# Altium schematic symbol library wr_switch.SCHLIB: 183 symbols (part 2 of 3)
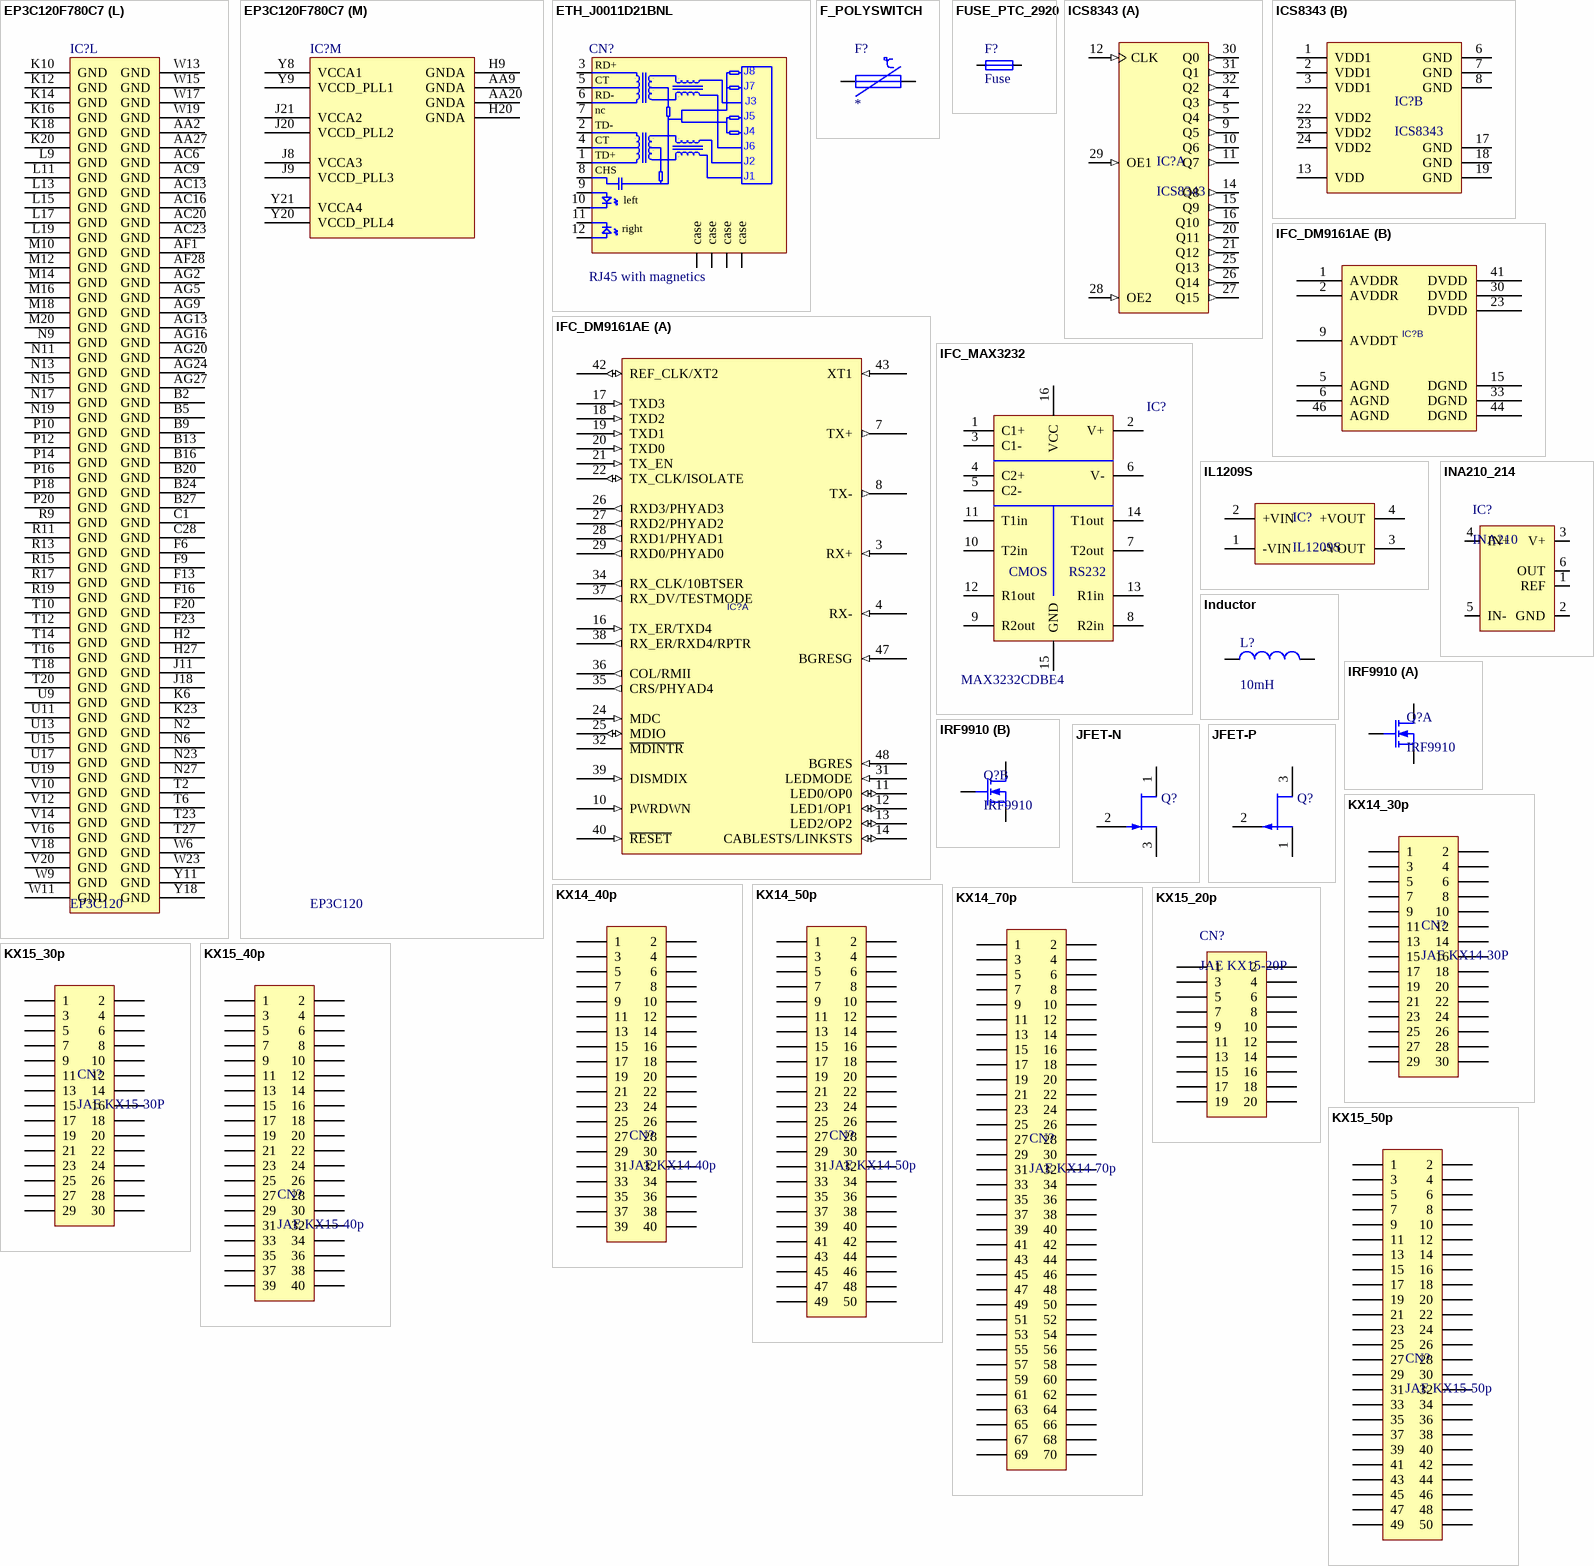
[diagram p24: symbols EP3C120F780C7 to KX15_50p]

## EP3C120F780C7
designator IC?, comment EP3C120
Cyclone III Family FPGA, 531 I/O Pins, 4 PLLs, 780-Pin FBGA, Speed Grade 7, Commercial Grade; Value: EP3C120F780C8N; RefId: 1635080; Published: 26-Feb-2007; DatasheetVersion: ver1.2, Sep-2007; PackageVersion: ver14.8, Oct-2007; PackageReference: FBGA780-2; Publisher: Altium Limited; PackageDescription: 780-Ball FineLine Ball Grid Array (FBGA780) - Option 2 - Wire Bond; Code_JEDEC: MS-034-AAM-1; ComponentLink1Description: Manufacturer Link; ComponentLink1URL: http://www.altera.com/; ComponentLink2Description: Handbook (7.86MB); ComponentLink2URL: http://www.altera.com/literature/hb/cyc3/cyclone3_handbook.pdf; ComponentLink3Description: Packaging Specification; ComponentLink3URL: http://www.altera.com/literature/ds/dspkg.pdf; Supplier: Farnell
footprint FBGA780-2 (BGA, 780-Leads, Body 29x29mm, Pitch 1mm)
3D model EP3C120-FBGA780-2 (780-Ball FineLine Ball Grid Array (FBGA780) - Option 2 - Wire Bond)
signal-integrity model EP3C120_F780 (Cyclone III)
part A pins: C2 IO, DIFFIO_L1n, (DQ2L)/(DQ1L)/(DQ1L) (io), D1 IO, DIFFIO_L2n, (DQ2L)/(DQ1L)/(DQ1L) (io), D2 IO, DIFFIO_L2p, (DQ2L)/(DQ1L)/(DQ1L) (io), D3 IO, DIFFIO_L1p (io), E1 IO, DIFFIO_L8n, _/(DQ1L)/(DQ1L) (io), E2 IO, DIFFIO_L8p, (FLASH_nCE, nCSO) (io), E3 IO, DIFFIO_L4p, (DQS2L/CQ3L,CDPCLK0)/(DQS2L/CQ3L,CDPCLK0)/(DQS2L/CQ3L,CDPCLK0) (io), F1 IO, DIFFIO_L9n, (DQ0L)/(DQ1L)/(DQ1L) (io), F2 IO, DIFFIO_L9p, (DM2L)/(DM1L0/BWS#1L0)/(DM1L0/BWS#1L0) (io), F3 IO, DIFFIO_L4n, (DQ2L)/(DQ1L)/(DQ1L) (io), F4 IO, DIFFIO_L5n, (DATA1, ASDO) (io), F5 IO, DIFFIO_L5p, (DQ2L)/(DQ1L)/(DQ1L) (io), G1 IO, DIFFIO_L11n (io), G2 IO, DIFFIO_L11p, (DQ0L)/(DQ1L)/(DQ1L) (io), G3 IO, DIFFIO_L6n (io), G4 IO, DIFFIO_L6p, (DQ2L)/(DQ1L)/(DQ1L) (io), G5 IO, DIFFIO_L3n, (DQ2L)/(DQ1L)/(DQ1L) (io), G6 IO, DIFFIO_L3p, (nRESET), (DQ2L)/(DQ1L)/(DQ1L) (io), H3 IO, DIFFIO_L7n (io), H4 IO, DIFFIO_L7p (io), H5 IO (io), H6 IO (io), H7 IO, VREFB1N0 (io), J3 IO, DIFFIO_L10n, (DQ0L)/(DQ1L)/(DQ1L) (io), J4 IO, DIFFIO_L10p (io), J5 IO, DIFFIO_L16n (io), J6 IO, DIFFIO_L16p (io), J7 IO, DIFFIO_L17p (io), K1 IO, DIFFIO_L12n, (DQ0L)/(DQ1L)/(DQ1L) (io), K2 IO, DIFFIO_L12p, (DQS0L/CQ1L,DPCLK0)/(DQS0L/CQ1L,DPCLK0)/(DQS0L/CQ1L,DPCLK0) (io), K3 IO, DIFFIO_L13n (io), K4 IO, DIFFIO_L13p (io), K7 IO, DIFFIO_L17n (io), K8 IO, DIFFIO_L18p (io), L1 IO, DIFFIO_L22n, (DQ0L)/(DQ1L)/(DQ1L) (io), L2 IO, DIFFIO_L22p (io), L3 IO, DIFFIO_L14n (io), L4 IO, DIFFIO_L14p (io), L5 IO, VREFB1N1 (io), L6 IO, DIFFIO_L19n (io), L7 IO, DIFFIO_L19p (io), L8 IO, DIFFIO_L18n (io), M1 IO, DIFFIO_L23n, (DQ0L)/(DQ1L)/(DQ1L) (io), M2 IO, DIFFIO_L23p (io), M3 IO, DIFFIO_L15n (io), M4 IO, DIFFIO_L15p (io), M5 IO, VREFB1N2 (io), M7 IO, DIFFIO_L21n (io), M8 IO, DIFFIO_L21p (io), N3 IO, DIFFIO_L20n (io), N4 IO, DIFFIO_L20p (io), N7 IO, (DATA0) (io), N8 IO (io), P1 IO, DIFFIO_L24n, (DQ0L)/(DQ1L)/(DQ1L) (io), P2 IO, DIFFIO_L24p (io)
part B pins: AA3 IO, DIFFIO_L40n (io), AA4 IO, DIFFIO_L40p, (DQ3L)/(DQ3L)/(DQ1L) (io), AA5 IO, DIFFIO_L47n (io), AA6 IO, DIFFIO_L47p (io), AA7 IO (io), AB1 IO, DIFFIO_L33n (io), AB2 IO, DIFFIO_L33p, (DQS1L/CQ1L#,DPCLK1)/(DQS1L/CQ1L#,DPCLK1)/(DQS1L/CQ1L#,DPCLK1) (io), AB3 IO, (DQ3L)/(DQ3L)/(DQ1L) (io), AB4 IO, VREFB2N2 (io), AB5 IO, DIFFIO_L50n (io), AB6 IO, DIFFIO_L50p (io), AC1 IO, DIFFIO_L37n, (DQ3L)/(DQ3L)/(DQ1L) (io), AC2 IO, DIFFIO_L37p, (DQ3L)/(DQ3L)/(DQ1L) (io), AC3 IO, DIFFIO_L38p, (DQ3L)/(DQ3L)/(DQ1L) (io), AC4 IO, DIFFIO_L49n (io), AC5 IO, DIFFIO_L49p (io), AD1 IO, DIFFIO_L39n (io), AD2 IO, DIFFIO_L39p, (DQ3L)/(DQ3L)/(DQ1L) (io), AD3 IO, DIFFIO_L38n (io), AE1 IO, DIFFIO_L41n (io), AE2 IO, DIFFIO_L41p, (DQ3L)/(DQ3L)/(DQ1L) (io), AE3 IO, DIFFIO_L48p, (DQS3L/CQ3L#,CDPCLK1)/(DQS3L/CQ3L#,CDPCLK1)/(DQS3L/CQ3L#,CDPCLK1) (io), AF2 IO, DIFFIO_L48n, (DM3L/BWS#3L)/(DM3L1/BWS#3L1)/(DM1L3/BWS#1L3) (io), R1 IO, DIFFIO_L25n, _/(DQ1L)/(DQ1L) (io), R2 IO, DIFFIO_L25p, (DQ0L)/(DQ1L)/(DQ1L) (io), R3 IO, DIFFIO_L28p, (DQ1L)/(DQ3L)/(DQ1L) (io), R4 IO, DIFFIO_L28n, (DQ1L)/(DQ3L)/(DQ1L) (io), R5 IO, (DQ1L)/(DQ3L)/(DQ1L) (io), R6 IO, DIFFIO_L26n (io), R7 IO, DIFFIO_L26p (io), T3 IO, DIFFIO_L29n (io), T4 IO, DIFFIO_L29p, (DQ1L)/(DQ3L)/(DQ1L) (io), T7 IO, VREFB2N0 (io), T8 IO, VREFB2N1 (io), U1 IO, DIFFIO_L30n, (DQ1L)/(DQ3L)/(DQ1L) (io), U2 IO, DIFFIO_L30p (io), U3 IO, DIFFIO_L27p, (DM0L)/(DM1L1/BWS#1L1)/(DM1L1/BWS#1L1) (io), U4 IO, DIFFIO_L27n (io), U5 IO, DIFFIO_L35n (io), U6 IO, DIFFIO_L35p, (DQ3L)/(DQ3L)/(DQ1L) (io), U7 IO, RUP1 (io), U8 IO, RDN1 (io), V1 IO, DIFFIO_L32n, (DQ1L)/(DQ3L)/(DQ1L) (io), V2 IO, DIFFIO_L32p, (DQ1L)/(DQ3L)/(DQ1L) (io), V3 IO, DIFFIO_L31n (io), V4 IO, DIFFIO_L31p, (DQ1L)/(DQ3L)/(DQ1L) (io), V5 IO, DIFFIO_L42n (io), V6 IO, DIFFIO_L42p (io), V7 IO, DIFFIO_L43n (io), V8 IO, DIFFIO_L43p (io), W1 IO, DIFFIO_L34n, (DM1L/BWS#1L)/(DM3L0/BWS#3L0)/(DM1L2/BWS#1L2) (io), W2 IO, DIFFIO_L34p, (DQ1L)/(DQ3L)/(DQ1L) (io), W3 IO, DIFFIO_L44n (io), W4 IO, DIFFIO_L44p (io), W7 IO (io), W8 IO, DIFFIO_L46p (io), Y3 IO, DIFFIO_L36n (io), Y4 IO, DIFFIO_L36p, (DQ3L)/(DQ3L)/(DQ1L) (io), Y5 IO, DIFFIO_L45n (io), Y6 IO, DIFFIO_L45p (io), Y7 IO, DIFFIO_L46n (io)
part C pins: AA8 IO, DIFFIO_B11p (io), AA10 IO, DIFFIO_B11n, (DQ3B)/(DQ3B)/(DQ5B) (io), AA12 IO, DIFFIO_B25n (io), AA13 IO, DIFFIO_B26n (io), AA14 IO, DIFFIO_B27p (io), AB7 IO, DIFFIO_B10p (io), AB8 IO, DIFFIO_B8n (io), AB9 IO, DIFFIO_B8p, (DM3B/BWS#3B)/(DM3B1/BWS#3B1)/(DM5B3/BWS#5B3) (io), AB10 IO, DIFFIO_B19p (io), AB11 IO, VREFB3N1 (io), AB12 IO, DIFFIO_B22n (io), AB13 IO, VREFB3N0 (io), AB14 IO, DIFFIO_B27n (io), AC7 IO, DIFFIO_B6n (io), AC8 IO, DIFFIO_B10n, (DQ3B)/(DQ3B)/(DQ5B) (io), AC10 IO, DIFFIO_B19n (io), AC11 IO, DIFFIO_B24p (io), AC12 IO, DIFFIO_B22p (io), AC14 IO, DIFFIO_B29p (io), AD4 IO, DIFFIO_B2p (io), AD5 IO, DIFFIO_B1p (io), AD7 IO, (DQS1B/CQ1B#,CDPCLK2)/(DQS1B/CQ1B#,CDPCLK2)/(DQS1B/CQ1B#,CDPCLK2) (io), AD8 IO, DIFFIO_B6p, (DQ1B)/_/_ (io), AD10 IO, (DQ3B)/(DQ3B)/(DQ5B) (io), AD11 IO, DIFFIO_B24n (io), AD12 IO (io), AD14 IO, DIFFIO_B29n (io), AE4 IO, DIFFIO_B3p (io), AE5 IO, PLL1_CLKOUTp (io), AE6 IO, DIFFIO_B1n, (DM1B)/_/_ (io), AE7 IO, DIFFIO_B13p (io), AE8 IO, DIFFIO_B14p (io), AE9 IO, (DQ5B)/(DQ3B)/(DQ5B) (io), AE10 IO, DIFFIO_B15p, (DQS3B/CQ3B#,DPCLK2)/(DQS3B/CQ3B#,DPCLK2)/(DQS3B/CQ3B#,DPCLK2) (io), AE11 IO, DIFFIO_B18p, (DQ5B)/(DQ3B)/(DQ5B) (io), AE12 IO, DIFFIO_B17p, (DQ5B)/(DQ3B)/(DQ5B) (io), AE13 IO, DIFFIO_B21p, (DQ5B)/(DQ3B)/(DQ5B) (io), AE14 IO, DIFFIO_B23p (io), AF3 IO, DIFFIO_B4n (io), AF4 IO, DIFFIO_B2n, (DQ1B)/_/_ (io), AF5 IO, PLL1_CLKOUTn (io), AF6 IO, (DQ1B)/_/_ (io), AF7 IO, DIFFIO_B13n, (DQ3B)/(DQ3B)/(DQ5B) (io), AF8 IO, DIFFIO_B14n, (DM5B/BWS#5B)/(DM3B0/BWS#3B0)/(DM5B2/BWS#5B2) (io), AF9 IO, (DQ3B)/(DQ3B)/(DQ5B) (io), AF10 IO, DIFFIO_B15n, (DQ5B)/(DQ3B)/(DQ5B) (io), AF11 IO, DIFFIO_B18n, (DQS5B/CQ5B#,DPCLK3)/(DQS5B/CQ5B#,DPCLK3)/(DQS5B/CQ5B#,DPCLK3) (io), AF12 IO, DIFFIO_B17n (io), AF13 IO, DIFFIO_B21n (io), AF14 IO, DIFFIO_B23n (io), AG3 IO, DIFFIO_B3n, (DQ1B)/_/_ (io), AG4 IO, DIFFIO_B5p (io), AG6 IO, DIFFIO_B7p, (DQ1B)/_/_ (io), AG7 IO, DIFFIO_B9p, (DQ3B)/(DQ3B)/(DQ5B) (io), AG8 IO, DIFFIO_B12p, (DQ3B)/(DQ3B)/(DQ5B) (io), AG10 IO, DIFFIO_B16p, (DQ5B)/(DQ3B)/(DQ5B) (io), AG11 IO, DIFFIO_B20p, (DQ5B)/(DQ3B)/(DQ5B) (io), AG12 IO, DIFFIO_B28p, (DQ5B)/(DQ3B)/(DQ5B) (io), AH3 IO, DIFFIO_B4p, (DQ1B)/_/_ (io), AH4 IO, DIFFIO_B5n, (DQ1B)/_/_ (io), AH6 IO, DIFFIO_B7n, (DQ1B)/_/_ (io), AH7 IO, DIFFIO_B9n, (DQ3B)/(DQ3B)/(DQ5B) (io), AH8 IO, DIFFIO_B12n, (DQ3B)/(DQ3B)/(DQ5B) (io), AH10 IO, DIFFIO_B16n (io), AH11 IO, DIFFIO_B20n, (DQ5B)/(DQ3B)/(DQ5B) (io), AH12 IO, DIFFIO_B28n (io), Y10 IO, VREFB3N2 (io), Y12 IO, DIFFIO_B25p (io), Y13 IO, DIFFIO_B26p (io), Y14 IO, DIFFIO_B30p (io), Y15 IO, DIFFIO_B30n (io)
part D pins: AA15 IO, VREFB4N2 (io), AA16 IO, DIFFIO_B35p (io), AA17 IO, RUP2 (io), AA19 IO, DIFFIO_B56n (io), AA21 IO (io), AB15 IO (io), AB16 IO, DIFFIO_B35n, (DQ4B)/(DQ5B)/(DQ5B) (io), AB17 IO, RDN2 (io), AB18 IO, DIFFIO_B53n (io), AB19 IO, DIFFIO_B53p (io), AB20 IO, VREFB4N0 (io), AB21 IO, DIFFIO_B57n (io), AB22 IO, DIFFIO_B57p (io), AC15 IO, DIFFIO_B31p, (DM4B)/(DM5B1/BWS#5B1)/(DM5B1/BWS#5B1) (io), AC17 IO, DIFFIO_B39p (io), AC18 IO, VREFB4N1 (io), AC19 IO, DIFFIO_B50p (io), AC21 IO, DIFFIO_B55p (io), AC22 IO, DIFFIO_B58p (io), AD15 IO, DIFFIO_B31n (io), AD17 IO, DIFFIO_B39n, (DQ2B)/(DQ5B)/(DQ5B) (io), AD18 IO, (DQ0B)/_/_ (io), AD19 IO, DIFFIO_B50n (io), AD21 IO, DIFFIO_B55n (io), AD22 IO, DIFFIO_B58n (io), AD24 IO (io), AD25 IO, DIFFIO_B54p (io), AE15 IO, DIFFIO_B32p, _/(DQ5B)/(DQ5B) (io), AE16 IO, DIFFIO_B34p (io), AE17 IO, DIFFIO_B36p, (DQ4B)/(DQ5B)/(DQ5B) (io), AE18 IO, DIFFIO_B41p, (DQS2B/CQ3B,DPCLK5)/(DQS2B/CQ3B,DPCLK5)/(DQS2B/CQ3B,DPCLK5) (io), AE19 IO, DIFFIO_B44p, (DQ2B)/(DQ5B)/(DQ5B) (io), AE20 IO, DIFFIO_B46p (io), AE21 IO, DIFFIO_B47p, (DQ0B)/_/_ (io), AE22 IO, DIFFIO_B52p (io), AE23 IO, PLL4_CLKOUTp (io), AE24 IO, DIFFIO_B54n, (DQ0B)/_/_ (io), AE25 IO, DIFFIO_B48p, (DQ0B)/_/_ (io), AF15 IO, DIFFIO_B32n, (DQ4B)/(DQ5B)/(DQ5B) (io), AF16 IO, DIFFIO_B34n, (DQ4B)/(DQ5B)/(DQ5B) (io), AF17 IO, DIFFIO_B36n, (DQS4B/CQ5B,DPCLK4)/(DQS4B/CQ5B,DPCLK4)/(DQS4B/CQ5B,DPCLK4) (io), AF18 IO, DIFFIO_B41n (io), AF19 IO, DIFFIO_B44n (io), AF20 IO, DIFFIO_B46n, (DQ0B)/_/_ (io), AF21 IO, DIFFIO_B47n (io), AF22 IO, DIFFIO_B52n, (DQ0B)/_/_ (io), AF23 IO, PLL4_CLKOUTn (io), AF24 IO, DIFFIO_B45p, (DQ2B)/(DQ5B)/(DQ5B) (io), AF25 IO, DIFFIO_B45n, (DM0B)/(DQ5B)/(DQ5B) (io), AF26 IO, DIFFIO_B48n, (DQS0B/CQ1B,CDPCLK3)/(DQS0B/CQ1B,CDPCLK3)/(DQS0B/CQ1B,CDPCLK3) (io), AG17 IO, DIFFIO_B33p, (DQ4B)/(DQ5B)/(DQ5B) (io), AG18 IO, DIFFIO_B37p, (DQ4B)/(DQ5B)/(DQ5B) (io), AG19 IO, DIFFIO_B38p (io), AG21 IO, DIFFIO_B40p, (DQ2B)/(DQ5B)/(DQ5B) (io), AG22 IO, DIFFIO_B42p, (DQ2B)/(DQ5B)/(DQ5B) (io), AG23 IO, DIFFIO_B43p (io), AG25 IO, DIFFIO_B49p (io), AG26 IO, DIFFIO_B59p, (DQ0B)/_/_ (io), AH17 IO, DIFFIO_B33n, (DQ4B)/(DQ5B)/(DQ5B) (io), AH18 IO, DIFFIO_B37n, (DQ4B)/(DQ5B)/(DQ5B) (io), AH19 IO, DIFFIO_B38n, (DM2B)/(DM5B0/BWS#5B0)/(DM5B0/BWS#5B0) (io), AH21 IO, DIFFIO_B40n, (DQ2B)/(DQ5B)/(DQ5B) (io), AH22 IO, DIFFIO_B42n, (DQ2B)/(DQ5B)/(DQ5B) (io), AH23 IO, DIFFIO_B43n, (DQ2B)/(DQ5B)/(DQ5B) (io), AH25 IO, DIFFIO_B49n, (DQ0B)/_/_ (io), AH26 IO, DIFFIO_B59n (io), Y16 IO, DIFFIO_B51n (io), Y17 IO, DIFFIO_B51p (io), Y19 IO, DIFFIO_B56p (io)
part E pins: AA22 IO, RUP3 (io), AA23 IO (io), AA24 IO, VREFB5N2 (io), AA25 IO, DIFFIO_R43p (io), AA26 IO, DIFFIO_R43n, (DQ3R)/(DQ3R)/(DQ1R) (io), AB23 IO, RDN3 (io), AB24 IO, (DM3R/BWS#3R)/(DM3R1/BWS#3R1)/(DM1R3/BWS#1R3) (io), AB25 IO, DIFFIO_R44p (io), AB26 IO, DIFFIO_R44n, (DQ3R)/(DQ3R)/(DQ1R) (io), AB27 IO, DIFFIO_R42p, (DQ1R)/(DQ3R)/(DQ1R) (io), AB28 IO, DIFFIO_R42n, (DM1R/BWS#1R)/(DM3R0/BWS#3R0)/(DM1R2/BWS#1R2) (io), AC24 IO, DIFFIO_R51p (io), AC25 IO, DIFFIO_R51n (io), AC26 IO, DIFFIO_R49p (io), AC27 IO, DIFFIO_R45p, (DQ3R)/(DQ3R)/(DQ1R) (io), AC28 IO, DIFFIO_R45n, (DQ3R)/(DQ3R)/(DQ1R) (io), AD26 IO, DIFFIO_R49n, (DQ3R)/(DQ3R)/(DQ1R) (io), AD27 IO, DIFFIO_R47p, (DQ3R)/(DQ3R)/(DQ1R) (io), AD28 IO, DIFFIO_R47n, (DQ3R)/(DQ3R)/(DQ1R) (io), AE26 IO, DIFFIO_R50p (io), AE27 IO, DIFFIO_R48p (io), AE28 IO, DIFFIO_R48n, (DQ3R)/(DQ3R)/(DQ1R) (io), AF27 IO, DIFFIO_R50n, (DQS3R/CQ3R#,CDPCLK4)/(DQS3R/CQ3R#,CDPCLK4)/(DQS3R/CQ3R#,CDPCLK4) (io), P21 IO, DIFFIO_R25p (io), R21 IO, DIFFIO_R25n (io), R22 IO, DIFFIO_R26p (io), R23 IO, DIFFIO_R26n (io), R24 IO (io), R25 IO, DIFFIO_R28p (io), R26 IO, DIFFIO_R28n, (DQ1R)/(DQ3R)/(DQ1R) (io), R27 IO, DIFFIO_R27p, _/(DQ1R)/(DQ1R) (io), R28 IO, DIFFIO_R27n, (DM0R)/(DM1R1/BWS#1R1)/(DM1R1/BWS#1R1) (io), T21 IO, DIFFIO_R29p, (DEV_CLRn) (io), T22 IO, DIFFIO_R29n, (DEV_OE) (io), T25 IO, DIFFIO_R30p, (DQS1R/CQ1R#,DPCLK6)/(DQS1R/CQ1R#,DPCLK6)/(DQS1R/CQ1R#,DPCLK6) (io), T26 IO, DIFFIO_R30n (io), U21 IO (io), U22 IO, DIFFIO_R34p (io), U23 IO, VREFB5N1 (io), U24 IO, VREFB5N0 (io), U25 IO, DIFFIO_R33p (io), U26 IO, DIFFIO_R33n (io), U27 IO, DIFFIO_R32p (io), U28 IO, DIFFIO_R32n, (DQ1R)/(DQ3R)/(DQ1R) (io), V21 IO, DIFFIO_R35p (io), V22 IO, DIFFIO_R34n (io), V23 IO, DIFFIO_R36p (io), V24 IO, DIFFIO_R36n (io), V25 IO, DIFFIO_R37p, (DQ1R)/(DQ3R)/(DQ1R) (io), V26 IO, DIFFIO_R37n (io), V27 IO, DIFFIO_R38p (io), V28 IO, DIFFIO_R38n, (DQ1R)/(DQ3R)/(DQ1R) (io), W21 IO, DIFFIO_R35n (io), W22 IO, DIFFIO_R31p (io), W25 IO, DIFFIO_R40p (io), W26 IO, DIFFIO_R40n, (DQ1R)/(DQ3R)/(DQ1R) (io), W27 IO, DIFFIO_R39n, (DQ1R)/(DQ3R)/(DQ1R) (io), W28 IO, DIFFIO_R39p, (DQ1R)/(DQ3R)/(DQ1R) (io), Y22 IO, DIFFIO_R31n (io), Y23 IO, DIFFIO_R46p (io), Y24 IO, DIFFIO_R46n, (DQ3R)/(DQ3R)/(DQ1R) (io), Y25 IO, DIFFIO_R41p (io), Y26 IO, DIFFIO_R41n, (DQ1R)/(DQ3R)/(DQ1R) (io)
part F pins: C27 IO, DIFFIO_R8n, (PADD20), (DQS2R/CQ3R,CDPCLK5)/(DQS2R/CQ3R,CDPCLK5)/(DQS2R/CQ3R,CDPCLK5) (io), D26 IO, DIFFIO_R8p (io), D27 IO, DIFFIO_R9p, (PADD21), (DQ2R)/(DQ1R)/(DQ1R) (io), D28 IO, DIFFIO_R9n, (PADD22) (io), E26 IO, DIFFIO_R10n (io), E27 IO, DIFFIO_R12p, (DQ2R)/(DQ1R)/(DQ1R) (io), E28 IO, DIFFIO_R12n, (PADD23), (DQ2R)/(DQ1R)/(DQ1R) (io), F24 IO, DIFFIO_R2p (io), F25 IO, DIFFIO_R2n (io), F26 IO, DIFFIO_R10p, (DQ2R)/(DQ1R)/(DQ1R) (io), F27 IO, DIFFIO_R13p, (RDY) (io), F28 IO, DIFFIO_R13n, (nAVD), (DQ2R)/(DQ1R)/(DQ1R) (io), G23 IO, DIFFIO_R1p (io), G24 IO, DIFFIO_R1n (io), G25 IO, DIFFIO_R3p (io), G26 IO, DIFFIO_R3n (io), G27 IO, DIFFIO_R15p, (nOE), (DQ2R)/(DQ1R)/(DQ1R) (io), G28 IO, DIFFIO_R15n, (nWE), (DQ2R)/(DQ1R)/(DQ1R) (io), H22 IO (io), H23 IO, DIFFIO_R4p (io), H24 IO, DIFFIO_R4n (io), H25 IO, DIFFIO_R11p (io), H26 IO, DIFFIO_R11n (io), J22 IO, VREFB6N0 (io), J23 IO, DIFFIO_R6p (io), J24 IO, DIFFIO_R6n (io), J25 IO, DIFFIO_R16p, _/(DQ1R)/(DQ1R) (io), J26 IO, DIFFIO_R16n (io), K21 IO, DIFFIO_R5p (io), K22 IO, DIFFIO_R5n (io), K25 IO, DIFFIO_R14p (io), K26 IO, DIFFIO_R14n, (DQ2R)/(DQ1R)/(DQ1R) (io), K27 IO, DIFFIO_R17p, (DQ0R)/(DQ1R)/(DQ1R) (io), K28 IO, DIFFIO_R17n, (DQ0R)/(DQ1R)/(DQ1R) (io), L21 IO, DIFFIO_R7p (io), L22 IO, DIFFIO_R7n (io), L23 IO, DIFFIO_R18p (io), L24 IO, DIFFIO_R18n, (DQ0R)/(DQ1R)/(DQ1R) (io), L25 IO (io), L26 IO, (DM2R)/(DM1R0/BWS#1R0)/(DM1R0/BWS#1R0) (io), L27 IO, DIFFIO_R19p, (DQ0R)/(DQ1R)/(DQ1R) (io), L28 IO, DIFFIO_R19n, (DQ0R)/(DQ1R)/(DQ1R) (io), M21 IO, VREFB6N1 (io), M23 IO (io), M24 IO (io), M25 IO, DIFFIO_R20p (io), M26 IO, DIFFIO_R20n, (DQ0R)/(DQ1R)/(DQ1R) (io), M27 IO, DIFFIO_R21p, (DQ0R)/(DQ1R)/(DQ1R) (io), M28 IO, DIFFIO_R21n, (DQ0R)/(DQ1R)/(DQ1R) (io), N21 IO, VREFB6N2 (io), N25 IO, DIFFIO_R22p (io), N26 IO, DIFFIO_R22n, (DQS0R/CQ1R,DPCLK7)/(DQS0R/CQ1R,DPCLK7)/(DQS0R/CQ1R,DPCLK7) (io), P25 IO, DIFFIO_R24p, (CRC_ERROR) (io), P26 IO, DIFFIO_R24n, (INIT_DONE) (io), P27 IO, DIFFIO_R23p, (CLKUSR) (io), P28 IO, DIFFIO_R23n, (nCEO) (io)
part G pins: A17 IO, DIFFIO_T35n, (PADD11), _/(DQ5T)/(DQ5T) (io), A18 IO, DIFFIO_T44n, (PADD7) (io), A19 IO, DIFFIO_T45n, (PADD5), (DQ4T)/(DQ5T)/(DQ5T) (io), A21 IO, DIFFIO_T52n, (DQ2T)/(DQ5T)/(DQ5T) (io), A22 IO, DIFFIO_T53n, (DQ2T)/(DQ5T)/(DQ5T) (io), A23 IO, DIFFIO_T56n, (DQ0T)/_/_ (io), A25 IO, DIFFIO_T59p, (DQS0T/CQ1T,CDPCLK6)/(DQS0T/CQ1T,CDPCLK6)/(DQS0T/CQ1T,CDPCLK6) (io), A26 IO, DIFFIO_T59n, (DQ0T)/_/_ (io), B17 IO, DIFFIO_T35p, (PADD12), (DQS4T/CQ5T,DPCLK9)/(DQS4T/CQ5T,DPCLK9)/(DQS4T/CQ5T,DPCLK9) (io), B18 IO, DIFFIO_T44p, (PADD8), (DQ4T)/(DQ5T)/(DQ5T) (io), B19 IO, DIFFIO_T45p, (PADD6), (DQ4T)/(DQ5T)/(DQ5T) (io), B21 IO, DIFFIO_T52p, (DQ2T)/(DQ5T)/(DQ5T) (io), B22 IO, DIFFIO_T53p, (PADD0) (io), B23 IO, DIFFIO_T56p, (DM0T)/_/_ (io), B25 IO, (DQ0T)/_/_ (io), B26 IO, DIFFIO_T61p, (DQ0T)/_/_ (io), C15 IO, DIFFIO_T32n, (PADD13) (io), C16 IO, DIFFIO_T36n, (PADD9), (DQ4T)/(DQ5T)/(DQ5T) (io), C17 IO, DIFFIO_T46n, (PADD3), (DQ4T)/(DQ5T)/(DQ5T) (io), C18 IO, DIFFIO_T50n, (PADD1), _/(DQ5T)/(DQ5T) (io), C19 IO, DIFFIO_T47n, (DQ4T)/(DQ5T)/(DQ5T) (io), C20 IO, DIFFIO_T49n, (DM2T)/(DM5T0/BWS#5T0)/(DM5T0/BWS#5T0) (io), C21 IO, (DQ2T)/(DQ5T)/(DQ5T) (io), C22 IO, DIFFIO_T54n, (DQ2T)/(DQ5T)/(DQ5T) (io), C23 IO, PLL2_CLKOUTn (io), C24 IO, DIFFIO_T55n, (DQ2T)/(DQ5T)/(DQ5T) (io), C25 IO, DIFFIO_T57p, (DQ0T)/_/_ (io), C26 IO, DIFFIO_T61n (io), D15 IO, DIFFIO_T32p, (PADD14), (DQ5T)/(DQ3T)/(DQ5T) (io), D16 IO, DIFFIO_T36p, (PADD10) (io), D17 IO, DIFFIO_T46p, (PADD4), (DQS2T/CQ3T,DPCLK8)/(DQS2T/CQ3T,DPCLK8)/(DQS2T/CQ3T,DPCLK8) (io), D18 IO, DIFFIO_T50p, (PADD2) (io), D19 IO, DIFFIO_T47p (io), D20 IO, DIFFIO_T49p, (DQ4T)/(DQ5T)/(DQ5T) (io), D21 IO, DIFFIO_T54p, (DQ2T)/(DQ5T)/(DQ5T) (io), D22 IO, DIFFIO_T60n, (DQ0T)/_/_ (io), D23 IO, PLL2_CLKOUTp (io), D24 IO, DIFFIO_T55p (io), D25 IO, DIFFIO_T57n (io), E15 IO, DIFFIO_T33p, (DM4T)/(DM5T1/BWS#5T1)/(DM5T1/BWS#5T1) (io), E17 IO, DIFFIO_T38p, (DQ4T)/(DQ5T)/(DQ5T) (io), E18 IO, DIFFIO_T51n, (DQ2T)/(DQ5T)/(DQ5T) (io), E19 IO, RDN4 (io), E21 IO, DIFFIO_T58n (io), E22 IO, DIFFIO_T60p, (DQ0T)/_/_ (io), E24 IO, DIFFIO_T48n (io), E25 IO, DIFFIO_T48p (io), F15 IO, DIFFIO_T33n (io), F17 IO, DIFFIO_T38n (io), F18 IO, DIFFIO_T51p (io), F19 IO, RUP4 (io), F21 IO, DIFFIO_T58p, (DQ0T)/_/_ (io), F22 IO, VREFB7N0 (io), G15 IO, VREFB7N2 (io), G16 IO, DIFFIO_T39n (io), G17 IO, VREFB7N1 (io), G18 IO, DIFFIO_T40p (io), G19 IO, DIFFIO_T40n (io), G20 IO, DIFFIO_T43n (io), G21 IO, DIFFIO_T43p (io), G22 IO, DIFFIO_T41p (io), H15 IO, DIFFIO_T34n (io), H16 IO, DIFFIO_T37p (io), H17 IO, DIFFIO_T39p (io), H19 IO, DIFFIO_T42n (io), H21 IO, DIFFIO_T41n (io), J15 IO, DIFFIO_T34p (io), J16 IO, DIFFIO_T37n (io), J17 IO (io), J19 IO, DIFFIO_T42p (io)
part H pins: A3 IO, DIFFIO_T3p, (DQ1T)/_/_ (io), A4 IO, DIFFIO_T4n, (DQ1T)/_/_ (io), A6 IO, DIFFIO_T17n (io), A7 IO, DIFFIO_T18n, (DQ3T)/(DQ3T)/(DQ5T) (io), A8 IO, DIFFIO_T11n, (DATA9), (DM3T/BWS#3T)/(DM3T1/BWS#3T1)/(DM5T3/BWS#5T3) (io), A10 IO, DIFFIO_T23n, (PADD18) (io), A11 IO, DIFFIO_T25n, (DATA2), (DQ5T)/(DQ3T)/(DQ5T) (io), A12 IO, DIFFIO_T27n, (DQ5T)/(DQ3T)/(DQ5T) (io), B3 IO, DIFFIO_T3n (io), B4 IO, DIFFIO_T4p, (DATA12), (DQS1T/CQ1T#,CDPCLK7)/(DQS1T/CQ1T#,CDPCLK7)/(DQS1T/CQ1T#,CDPCLK7) (io), B6 IO, DIFFIO_T17p, (DATA6), (DQ3T)/(DQ3T)/(DQ5T) (io), B7 IO, DIFFIO_T18p, (DATA5), (DQ3T)/(DQ3T)/(DQ5T) (io), B8 IO, DIFFIO_T11p (io), B10 IO, DIFFIO_T23p, (DATA4), (DM5T/BWS#5T)/(DM3T0/BWS#3T0)/(DM5T2/BWS#5T2) (io), B11 IO, DIFFIO_T25p, (DATA3), (DQ5T)/(DQ3T)/(DQ5T) (io), B12 IO, DIFFIO_T27p (io), C3 IO (io), C4 IO, DIFFIO_T2n, (DQ1T)/_/_ (io), C5 IO, PLL3_CLKOUTn (io), C6 IO, (DQ1T)/_/_ (io), C7 IO, DIFFIO_T9n, (DATA10), (DQ1T)/_/_ (io), C8 IO, DIFFIO_T10n, (DQ1T)/_/_ (io), C9 IO, DIFFIO_T14n, (DQ3T)/(DQ3T)/(DQ5T) (io), C10 IO, DIFFIO_T21n, (DQ3T)/(DQ3T)/(DQ5T) (io), C11 IO, DIFFIO_T15n, (DATA7), (DQ3T)/(DQ3T)/(DQ5T) (io), C12 IO, DIFFIO_T29n, (PADD16), (DQ5T)/(DQ3T)/(DQ5T) (io), C13 IO, DIFFIO_T31n, (DQ5T)/(DQ3T)/(DQ5T) (io), C14 IO, DIFFIO_T30n, (DQ5T)/(DQ3T)/(DQ5T) (io), D4 IO, DIFFIO_T2p, (DM1T)/_/_ (io), D5 IO, PLL3_CLKOUTp (io), D6 IO, DIFFIO_T8p, (DQ1T)/_/_ (io), D7 IO, DIFFIO_T9p, (DATA11) (io), D8 IO, DIFFIO_T10p, (DQ1T)/_/_ (io), D9 IO, DIFFIO_T14p, (DATA8) (io), D10 IO, DIFFIO_T21p, (DQ3T)/(DQ3T)/(DQ5T) (io), D11 IO, DIFFIO_T15p (io), D12 IO, DIFFIO_T29p, (PADD17), (DQS5T/CQ5T#,DPCLK10)/(DQS5T/CQ5T#,DPCLK10)/(DQS5T/CQ5T#,DPCLK10) (io), D13 IO, DIFFIO_T31p, (DQ5T)/(DQ3T)/(DQ5T) (io), D14 IO, DIFFIO_T30p, (PADD15) (io), E4 IO, DIFFIO_T1n (io), E5 IO, DIFFIO_T1p (io), E7 IO, DIFFIO_T8n (io), E8 IO, DIFFIO_T7n (io), E10 IO (io), E11 IO, DIFFIO_T19n, (DQ3T)/(DQ3T)/(DQ5T) (io), E12 IO, DIFFIO_T20n, (DATA14), (DQS3T/CQ3T#,DPCLK11)/(DQS3T/CQ3T#,DPCLK11)/(DQS3T/CQ3T#,DPCLK11) (io), E14 IO, DIFFIO_T26p, (DQ5T)/(DQ3T)/(DQ5T) (io), F7 IO, DIFFIO_T5p (io), F8 IO, DIFFIO_T7p (io), F10 IO, DIFFIO_T13n (io), F11 IO, DIFFIO_T19p (io), F12 IO, DIFFIO_T20p, (DATA13) (io), F14 IO, DIFFIO_T26n (io), G7 IO, DIFFIO_T5n (io), G8 IO, DIFFIO_T6n (io), G9 IO, VREFB8N2 (io), G10 IO, DIFFIO_T13p (io), G11 IO, DIFFIO_T16n (io), G12 IO, VREFB8N1 (io), G13 IO, DIFFIO_T22n, (PADD19) (io), G14 IO, VREFB8N0 (io), H8 IO, DIFFIO_T6p (io), H10 IO, DIFFIO_T12n (io), H12 IO, DIFFIO_T16p (io), H13 IO, DIFFIO_T22p, (DATA15), (DQ3T)/(DQ3T)/(DQ5T) (io), H14 IO, DIFFIO_T28n (io), J10 IO, DIFFIO_T12p (io), J12 IO, DIFFIO_T24p (io), J13 IO, DIFFIO_T24n (io), J14 IO, DIFFIO_T28p (io)
part I pins: A14 CLK10, DIFFCLK_4n (in), A15 CLK8, DIFFCLK_5n (in), AG14 CLK15, DIFFCLK_6p (in), AG15 CLK13, DIFFCLK_7p (in), AH14 CLK14, DIFFCLK_6n (in), AH15 CLK12, DIFFCLK_7n (in), B14 CLK11, DIFFCLK_4p (in), B15 CLK9, DIFFCLK_5p (in), J1 CLK1, DIFFCLK_0n (in), J2 CLK0, DIFFCLK_0p (in), J27 CLK4, DIFFCLK_2p (in), J28 CLK5, DIFFCLK_2n (in), Y1 CLK3, DIFFCLK_1n (in), Y2 CLK2, DIFFCLK_1p (in), Y27 CLK6, DIFFCLK_3p (in), Y28 CLK7, DIFFCLK_3n (in)
part J pins: M6 nSTATUS (io), M22 MSEL2 (in), N22 MSEL0 (in), P3 DCLK (io), P4 nCONFIG (in), P5 TCK (in), P6 TDO (out), P7 TDI (in), P8 TMS (in), P22 MSEL3 (in), P23 MSEL1 (in), P24 CONF_DONE (io), R8 nCE (in)
part K pins: A2 VCCIO8 (power), A5 VCCIO8 (power), A9 VCCIO8 (power), A13 VCCIO8 (power), A16 VCCIO7 (power), A20 VCCIO7 (power), A24 VCCIO7 (power), A27 VCCIO7 (power), AA1 VCCIO2 (power), AA11 VCCIO3 (power), AA18 VCCIO4 (power), AA28 VCCIO5 (power), AD6 VCCIO3 (power), AD9 VCCIO3 (power), AD13 VCCIO3 (power), AD16 VCCIO4 (power), AD20 VCCIO4 (power), AD23 VCCIO4 (power), AG1 VCCIO2 (power), AG28 VCCIO5 (power), AH2 VCCIO3 (power), AH5 VCCIO3 (power), AH9 VCCIO3 (power), AH13 VCCIO3 (power), AH16 VCCIO4 (power), AH20 VCCIO4 (power), AH24 VCCIO4 (power), AH27 VCCIO4 (power), B1 VCCIO1 (power), B28 VCCIO6 (power), E6 VCCIO8 (power), E9 VCCIO8 (power), E13 VCCIO8 (power), E16 VCCIO7 (power), E20 VCCIO7 (power), E23 VCCIO7 (power), H1 VCCIO1 (power), H11 VCCIO8 (power), H18 VCCIO7 (power), H28 VCCIO6 (power), K5 VCCIO1 (power), K9 VCCINT (power), K11 VCCINT (power), K13 VCCINT (power), K15 VCCINT (power), K17 VCCINT (power), K19 VCCINT (power), K24 VCCIO6 (power), L10 VCCINT (power), L12 VCCINT (power), L14 VCCINT (power), L16 VCCINT (power), L18 VCCINT (power), L20 VCCINT (power), M9 VCCINT (power), M11 VCCINT (power), M13 VCCINT (power), M15 VCCINT (power), M17 VCCINT (power), M19 VCCINT (power), N1 VCCIO1 (power), N5 VCCIO1 (power), N10 VCCINT (power), N12 VCCINT (power), N14 VCCINT (power), N16 VCCINT (power), N18 VCCINT (power), N20 VCCINT (power), N24 VCCIO6 (power), N28 VCCIO6 (power), P9 VCCINT (power), P11 VCCINT (power), P13 VCCINT (power), P15 VCCINT (power), P17 VCCINT (power), P19 VCCINT (power), R10 VCCINT (power), R12 VCCINT (power), R14 VCCINT (power), R16 VCCINT (power), R18 VCCINT (power), R20 VCCINT (power), T1 VCCIO2 (power), T5 VCCIO2 (power), T9 VCCINT (power), T11 VCCINT (power), T13 VCCINT (power), T15 VCCINT (power), T17 VCCINT (power), T19 VCCINT (power), T24 VCCIO5 (power), T28 VCCIO5 (power), U10 VCCINT (power), U12 VCCINT (power), U14 VCCINT (power), U16 VCCINT (power), U18 VCCINT (power), U20 VCCINT (power), V9 VCCINT (power), V11 VCCINT (power), V13 VCCINT (power), V15 VCCINT (power), V17 VCCINT (power), V19 VCCINT (power), W5 VCCIO2 (power), W10 VCCINT (power), W12 VCCINT (power), W14 VCCINT (power), W16 VCCINT (power), W18 VCCINT (power), W20 VCCINT (power), W24 VCCIO5 (power)
part L pins: AA2 GND (power), AA27 GND (power), AC6 GND (power), AC9 GND (power), AC13 GND (power), AC16 GND (power), AC20 GND (power), AC23 GND (power), AF1 GND (power), AF28 GND (power), AG2 GND (power), AG5 GND (power), AG9 GND (power), AG13 GND (power), AG16 GND (power), AG20 GND (power), AG24 GND (power), AG27 GND (power), B2 GND (power), B5 GND (power), B9 GND (power), B13 GND (power), B16 GND (power), B20 GND (power), B24 GND (power), B27 GND (power), C1 GND (power), C28 GND (power), F6 GND (power), F9 GND (power), F13 GND (power), F16 GND (power), F20 GND (power), F23 GND (power), H2 GND (power), H27 GND (power), J11 GND (power), J18 GND (power), K6 GND (power), K10 GND (power), K12 GND (power), K14 GND (power), K16 GND (power), K18 GND (power), K20 GND (power), K23 GND (power), L9 GND (power), L11 GND (power), L13 GND (power), L15 GND (power), L17 GND (power), L19 GND (power), M10 GND (power), M12 GND (power), M14 GND (power), M16 GND (power), M18 GND (power), M20 GND (power), N2 GND (power), N6 GND (power), N9 GND (power), N11 GND (power), N13 GND (power), N15 GND (power), N17 GND (power), N19 GND (power), N23 GND (power), N27 GND (power), P10 GND (power), P12 GND (power), P14 GND (power), P16 GND (power), P18 GND (power), P20 GND (power), R9 GND (power), R11 GND (power), R13 GND (power), R15 GND (power), R17 GND (power), R19 GND (power), T2 GND (power), T6 GND (power), T10 GND (power), T12 GND (power), T14 GND (power), T16 GND (power), T18 GND (power), T20 GND (power), T23 GND (power), T27 GND (power), U9 GND (power), U11 GND (power), U13 GND (power), U15 GND (power), U17 GND (power), U19 GND (power), V10 GND (power), V12 GND (power), V14 GND (power), V16 GND (power), V18 GND (power), V20 GND (power), W6 GND (power), W9 GND (power), W11 GND (power), W13 GND (power), W15 GND (power), W17 GND (power), W19 GND (power), W23 GND (power), Y11 GND (power), Y18 GND (power)
part M pins: AA9 GNDA (power), AA20 GNDA (power), H9 GNDA (power), H20 GNDA (power), J8 VCCA3 (power), J9 VCCD_PLL3 (power), J20 VCCD_PLL2 (power), J21 VCCA2 (power), Y8 VCCA1 (power), Y9 VCCD_PLL1 (power), Y20 VCCD_PLL4 (power), Y21 VCCA4 (power)
part A text: BANK 1
part B text: BANK 2
part C text: BANK 3
part D text: BANK 4
part E text: BANK 5
part F text: BANK 6
part G text: BANK 7
part H text: BANK 8

## ETH_J0011D21BNL
designator CN?, comment RJ45 with magnetics
RJ45 with magnetics and LEDs (Kamami, Kristech,Mouser); Value: J0011D21BNL; Supplier: Kamami.pl/Mouser/Kristech
footprint J0011D21BNL (ethernet trafo with magnetics and LEDs)
pins: 0a case, 0b case, 0c case, 0d case, 1, 2 TD-, 3, 4, 5, 6, 7, 8, 9, 10, 11, 12
text: RD+; J8; CT; J7; RD-; J3; nc; J5; J4; J6; TD+; J2; CHS; J1; left; right

## F_POLYSWITCH
designator F?
polymer FUSE
footprint SMD150-2
footprint SMD125-2
footprint PTC_SMD_1812 (PTC FUSE SMD1812 (Maritex))
pins: 1, 2
2 alternate drawings of the same symbol

## FUSE_PTC_2920
designator F?, comment Fuse
SMD PTC Fuse, size 2920; Value: *
footprint FUSE_SMD_2920
pins: 1, 2

## ICS8343
designator IC?
1:16 LVCMOS fanout; RefId: 800-1112-ND; Value: ICS8343AYI-01LF; Supplier: Digikey
footprint TQFP80P900X900-32AM (Thin QFP, 32-Leads, Body 7x7mm, Pitch 0.8mm, IPC Low Density)
part A pins: 4 Q3 (out), 5 Q4 (out), 9 Q5 (out), 10 Q6 (out), 11 Q7 (out), 12 CLK (in), 14 Q8 (out), 15 Q9 (out), 16 Q10 (out), 20 Q11 (out), 21 Q12 (out), 25 Q13 (out), 26 Q14 (out), 27 Q15 (out), 28 OE2 (in), 29 OE1 (in), 30 Q0 (out), 31 Q1 (out), 32 Q2 (out)
part B pins: 1 VDD1 (power), 2 VDD1 (power), 3 VDD1 (power), 6 GND (power), 7 GND (power), 8 GND (power), 13 VDD (power), 17 GND (power), 18 GND (power), 19 GND (power), 22 VDD2 (power), 23 VDD2 (power), 24 VDD2 (power)

## IFC_DM9161AE
designator IC?, comment DM9161AEP  (value not drawn)
Davicom 100Mbps ethernet PHY; DEV: QFP48_01; BOI: LQFP48; DESIG: 10/100 Fast Ethernet Tranceiver MII/RMII Auto MDIX; Right: 160; Bottom: 450; Value: DM9161AEP; FAB: DAVICOM; RoHS: YES
footprint LQFP48l
part A pins: 3 RX+ (in), 4 RX- (in), 7 TX+ (out), 8 TX- (out), 10 PWRDWN (in), 11 LED0/OP0 (io), 12 LED1/OP1 (io), 13 LED2/OP2 (io), 14 CABLESTS/LINKSTS (io), 16 TX_ER/TXD4 (in), 17 TXD3 (in), 18 TXD2 (in), 19 TXD1 (in), 20 TXD0 (in), 21 TX_EN (in), 22 TX_CLK/ISOLATE (io), 24 MDC (in), 25 MDIO (io), 26 RXD3/PHYAD3 (out), 27 RXD2/PHYAD2 (out), 28 RXD1/PHYAD1 (out), 29 RXD0/PHYAD0 (out), 31 LEDMODE (in), 32 ~{MDINTR} (hiz), 34 RX_CLK/10BTSER (out), 35 CRS/PHYAD4 (out), 36 COL/RMII (out), 37 RX_DV/TESTMODE (out), 38 RX_ER/RXD4/RPTR (out), 39 DISMDIX (in), 40 ~{RESET} (in), 42 REF_CLK/XT2 (io), 43 XT1 (in), 47 BGRESG (in), 48 BGRES (in)
part B pins: 1 AVDDR (power), 2 AVDDR (power), 5 AGND (power), 6 AGND (power), 9 AVDDT (power), 15 DGND (power), 23 DVDD (power), 30 DVDD (power), 33 DGND (power), 41 DVDD (power), 44 DGND (power), 46 AGND (power)

## IFC_MAX3232
designator IC?, comment MAX3232CDBE4
RefId: 1287435; Supplier: Farnell; Value: MAX3232CDBE4
footprint SSOP16
pins: 1 C1+, 2 V+, 3 C1-, 4 C2+, 5 C2-, 6 V-, 7 T2out, 8 R2in, 9 R2out, 10 T2in, 11 T1in, 12 R1out, 13 R1in, 14 T1out, 15 GND, 16 VCC
2 alternate drawings of the same symbol
text: CMOS; RS232

## IL1209S
designator IC?
DC/DC converter
footprint IL1209S
pins: 1 -VIN (power), 2 +VIN (power), 3 -VOUT (power), 4 +VOUT (power)

## INA210_214
designator IC?, comment INA210
High/low side current monitor; Supplier: Farnell; Value: INA210
footprint TI_6sc70
pins: 1 REF (power), 2 GND (power), 3 V+ (power), 4 IN+, 5 IN-, 6 OUT (power)

## Inductor
designator L?  value 10mH
Inductor; Code_IEC: 1005; Published: 8-Jun-2000; LatestRevisionDate: 17-Jul-2002; LatestRevisionNote: Re-released for DXP Platform.; PackageReference: 0402-A; Publisher: Altium Limited; Code_JEITA: 0402
footprint 0402-A (Chip Inductor; Body 1 x 0.5 mm (LxW typ))
footprint L0603 (Chip Inductor; Body 1.6 x 0.8 mm (LxW typ))
footprint 2012_Chip (2012 Chip; Chip Inductor; Body 2.0 x 1.2 mm (LxW typ))
footprint 2029 (Chip Inductor; Body 2 x 1.2 mm (LxW typ))
footprint 3261 (3216 Chip; Chip Inductor; Body 3.2 x 1.6 mm (LxW typ))
footprint 4564_Chip (4564 Chip; Chip Inductor; Body 4.5 x 6.4 mm (LxW typ))
simulation model INDUCTOR (Inductor)
signal-integrity model Inductor
pins: 1, 2

## IRF9910
designator Q?
dual N mosfet
footprint SOIC127P600-8AL (SOIC, 8-Leads, Body 4.9x3.9mm, Pitch 1.27mm, IPC High Density)
part A pins: 3 S1, 4 G1, 5 D1, 6 D1
part B pins: 1 S2, 2 G2, 7 D2, 8 D2

## JFET-N
designator Q?
N-Channel JFET; Published: 8-Jun-2000; LatestRevisionDate: 17-Jul-2002; LatestRevisionNote: Re-released for DXP Platform.; PackageReference: TO-254-AA; Publisher: Altium Limited; Code_JEDEC: TO-254-AA
footprint TO-254-AA (TO, Thru-Hole, Vertical, Heatsink Mounted; 3 In-Line Leads; Pitch 3.81 mm)
simulation model NJFET
pins: 1 D, 2 G, 3 S

## JFET-P
designator Q?
P-Channel JFET; Published: 8-Jun-2000; LatestRevisionDate: 17-Jul-2002; LatestRevisionNote: Re-released for DXP Platform.; PackageReference: TO-18A; Publisher: Altium Limited
footprint TO-18A (SC-89; 3 Flat Leads; Body 1.6 x 1.6 x 0.7 mm, inc leads (LxWxH typ))
simulation model PJFET
pins: 1 D, 2 G, 3 S

## KX14_30p
designator CN?, comment JAE KX14-30P
multipin B2B connector (plug); Supplier: Mouser
footprint JAE_KX15_30P
pins: 1, 2, 3, 4, 5, 6, 7, 8, 9, 10, 11, 12, 13, 14, 15, 16, 17, 18, 19, 20, 21, 22, 23, 24, 25, 26, 27, 28, 29, 30

## KX14_40p
designator CN?, comment JAE KX14-40p
multipin B2B connector (receptacle); RefId: 1519650; Value: KX14-40K5DRE; Supplier: Farnell
footprint JAE_KX14_40p
pins: 1, 2, 3, 4, 5, 6, 7, 8, 9, 10, 11, 12, 13, 14, 15, 16, 17, 18, 19, 20, 21, 22, 23, 24, 25, 26, 27, 28, 29, 30, 31, 32, 33, 34, 35, 36, 37, 38, 39, 40

## KX14_50p
designator CN?, comment JAE KX14-50p
multipin B2B connector (plug); Supplier: Farnell
footprint JAE_KX14_50P
pins: 1, 2, 3, 4, 5, 6, 7, 8, 9, 10, 11, 12, 13, 14, 15, 16, 17, 18, 19, 20, 21, 22, 23, 24, 25, 26, 27, 28, 29, 30, 31, 32, 33, 34, 35, 36, 37, 38, 39, 40, 41, 42, 43, 44, 45, 46, 47, 48, 49, 50

## KX14_70p
designator CN?, comment JAE KX14-70p
multipin B2B connector (receptacle); RefId: 670-1272-ND; Value: KX14-70K14DE; Supplier: Digikey
footprint JAE_KX14_70p
pins: 1, 2, 3, 4, 5, 6, 7, 8, 9, 10, 11, 12, 13, 14, 15, 16, 17, 18, 19, 20, 21, 22, 23, 24, 25, 26, 27, 28, 29, 30, 31, 32, 33, 34, 35, 36, 37, 38, 39, 40, 41, 42, 43, 44, 45, 46, 47, 48, 49, 50, 51, 52, 53, 54, 55, 56, 57, 58, 59, 60, 61, 62, 63, 64, 65, 66, 67, 68, 69, 70

## KX15_20p
designator CN?, comment JAE KX15-20P
multipin B2B connector (plug); Supplier: Mouser
footprint JAE_KX15_20P
pins: 1, 2, 3, 4, 5, 6, 7, 8, 9, 10, 11, 12, 13, 14, 15, 16, 17, 18, 19, 20

## KX15_30p
designator CN?, comment JAE KX15-30P
multipin B2B connector (plug); Supplier: Mouser
footprint JAE_KX14_30P
pins: 1, 2, 3, 4, 5, 6, 7, 8, 9, 10, 11, 12, 13, 14, 15, 16, 17, 18, 19, 20, 21, 22, 23, 24, 25, 26, 27, 28, 29, 30

## KX15_40p
designator CN?, comment JAE KX15-40p
multipin B2B connector (plug); RefId: 1519662; Value: KX15-40K3DE; Supplier: Farnell
footprint JAE_KX15_40P
pins: 1, 2, 3, 4, 5, 6, 7, 8, 9, 10, 11, 12, 13, 14, 15, 16, 17, 18, 19, 20, 21, 22, 23, 24, 25, 26, 27, 28, 29, 30, 31, 32, 33, 34, 35, 36, 37, 38, 39, 40

## KX15_50p
designator CN?, comment JAE KX15-50p
multipin B2B connector (plug); Supplier: Farnell
footprint JAE_KX15_50P
pins: 1, 2, 3, 4, 5, 6, 7, 8, 9, 10, 11, 12, 13, 14, 15, 16, 17, 18, 19, 20, 21, 22, 23, 24, 25, 26, 27, 28, 29, 30, 31, 32, 33, 34, 35, 36, 37, 38, 39, 40, 41, 42, 43, 44, 45, 46, 47, 48, 49, 50

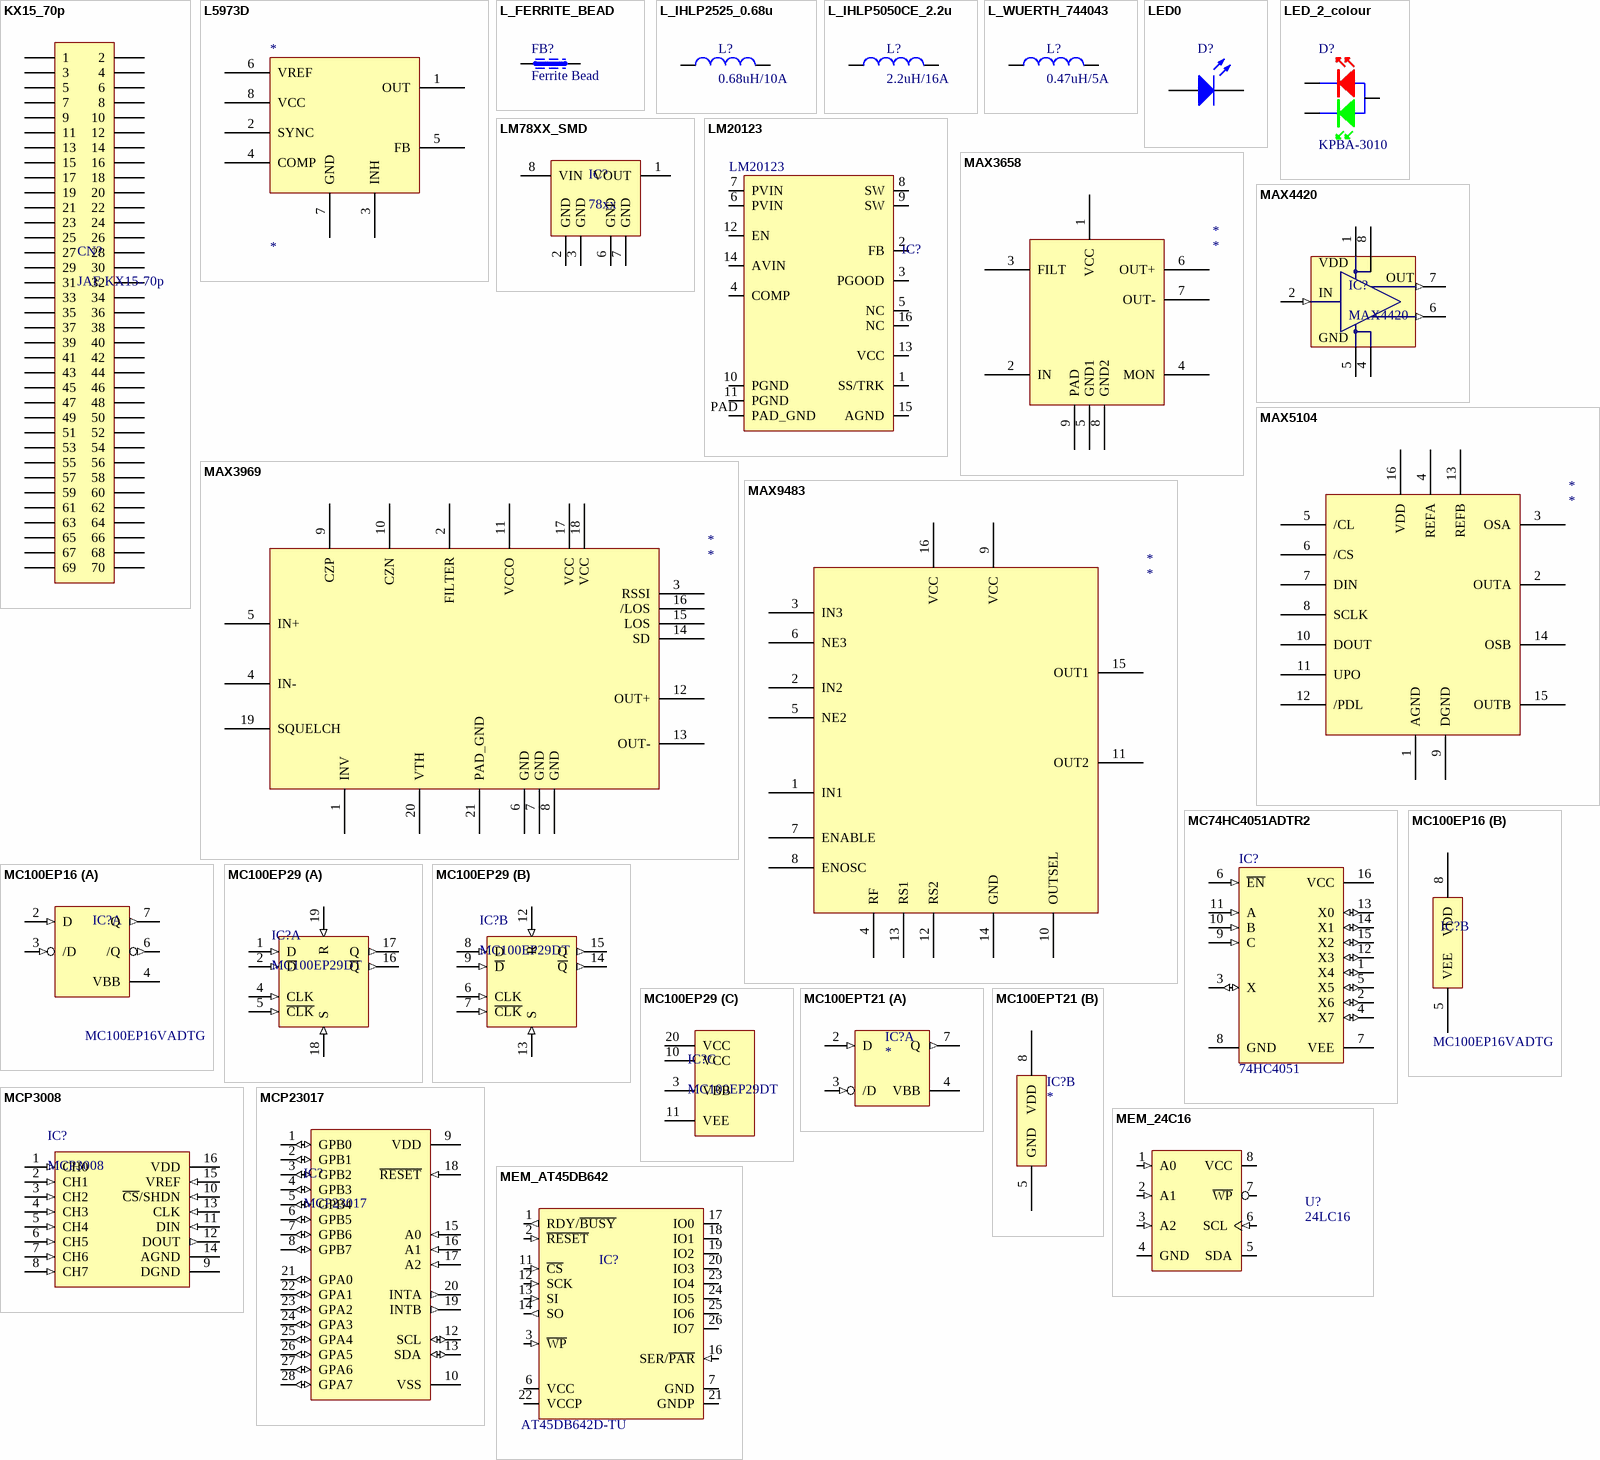
[diagram p15: symbols KX15_70p to MEM_AT45DB642]

## KX15_70p
designator CN?, comment JAE KX15-70p
multipin B2B connector (plug); RefId: 670-1338-ND; Value: KX15-70K4DE; Supplier: Digikey
footprint JAE_KX15_70p
pins: 1, 2, 3, 4, 5, 6, 7, 8, 9, 10, 11, 12, 13, 14, 15, 16, 17, 18, 19, 20, 21, 22, 23, 24, 25, 26, 27, 28, 29, 30, 31, 32, 33, 34, 35, 36, 37, 38, 39, 40, 41, 42, 43, 44, 45, 46, 47, 48, 49, 50, 51, 52, 53, 54, 55, 56, 57, 58, 59, 60, 61, 62, 63, 64, 65, 66, 67, 68, 69, 70

## L5973D
designator *
pins: 1 OUT, 2 SYNC, 3 INH, 4 COMP, 5 FB, 6 VREF, 7 GND, 8 VCC

## L_FERRITE_BEAD
designator FB?, comment Ferrite Bead
footprint 0805
footprint 1206
footprint 0603
pins: 1, 2
2 alternate drawings of the same symbol

## L_IHLP2525_0.68u
designator L?, comment 0.68uH/10A
Vishay 16A 2.2u inductor; Value: ihlp5050ce01-2r2; RefId: 4829049; Supplier: Farnell
footprint IHLP5050
footprint IHLP2525
pins: 1, 2

## L_IHLP5050CE_2.2u
designator L?, comment 2.2uH/16A
Vishay 16A 2.2u inductor; Value: ihlp5050ce01-2r2; RefId: 1470177; Supplier: Farnell
footprint IHLP5050
pins: 1, 2

## L_WUERTH_744043
designator L?, comment 0.47uH/5A
Wuerth small footprint SMD power inductor; Value: 74404300047; Supplier: Mouser; RefId: 74404300047
footprint IHLP5050
footprint IND_WURTH_744042_MH
pins: 1, 2

## LED0
designator D?
Typical INFRARED GaAs LED; Published: 8-Jun-2000; LatestRevisionDate: 08-Jul-2005; LatestRevisionNote: Mech Layer 1 removed.; PackageReference: LED-0; Publisher: Altium Limited
footprint LED-0 (Typical INFRARED GaAs LED; 2 Leads)
simulation model LED0 (Diode)
pins: 1 A, 2 K

## LED_2_colour
designator D?, comment KPBA-3010
Dual color LED; RefId: Far/8530165; Value: KPBA-3010ESGC-F01
footprint DUOLED_LNJ123; pin to pad A>3 KG>1 KR>2
footprint LED5mm_dual_color (dual LED 5mm)
pins: A, KG, KR

## LM78XX_SMD
designator IC?, comment 78xx
footprint SOIC127P600-8AL (SOIC, 8-Leads, Body 4.9x3.9mm, Pitch 1.27mm, IPC High Density)
pins: 1 VOUT (power), 2 GND (power), 3 GND (power), 6 GND (power), 7 GND (power), 8 VIN (power)

## LM20123
designator IC?
National Semiconductor 3A integrated synchronous buck converter; RefId: 1506824; Supplier: Farnell; Value: LM20123
footprint eTSSOP_16_MX (SOP, 16-Leads, Body 5x4.4mm, Pitch 0.65mm, IPC High Density)
pins: 1 SS/TRK, 2 FB, 3 PGOOD, 4 COMP, 5 NC, 6 PVIN, 7 PVIN, 8 SW, 9 SW, 10 PGND, 11 PGND, 12 EN, 13 VCC, 14 AVIN, 15 AGND, 16 NC, PAD PAD_GND

## MAX3658
designator *
pins: 1 VCC, 2 IN, 3 FILT, 4 MON, 5 GND1, 6 OUT+, 7 OUT-, 8 GND2, 9 PAD

## MAX3969
designator *
pins: 1 INV, 2 FILTER, 3 RSSI, 4 IN-, 5 IN+, 6 GND, 7 GND, 8 GND, 9 CZP, 10 CZN, 11 VCCO, 12 OUT+, 13 OUT-, 14 SD, 15 LOS, 16 /LOS, 17 VCC, 18 VCC, 19 SQUELCH, 20 VTH, 21 PAD_GND

## MAX4420
designator IC?
MOSFET driver
footprint SOIC127P600-8AL (SOIC, 8-Leads, Body 4.9x3.9mm, Pitch 1.27mm, IPC High Density)
pins: 1 VDD (oe), 2 IN (in), 4 GND (oe), 5 GND (oe), 6 OUT (out), 7 OUT (out), 8 VDD (oe)

## MAX5104
designator *
pins: 1 AGND, 2 OUTA, 3 OSA, 4 REFA, 5 /CL, 6 /CS, 7 DIN, 8 SCLK, 9 DGND, 10 DOUT, 11 UPO, 12 /PDL, 13 REFB, 14 OSB, 15 OUTB, 16 VDD

## MAX9483
designator *
pins: 1 IN1, 2 IN2, 3 IN3, 4 RF, 5 NE2, 6 NE3, 7 ENABLE, 8 ENOSC, 9 VCC, 10 OUTSEL, 11 OUT2, 12 RS2, 13 RS1, 14 GND, 15 OUT1, 16 VCC

## MC74HC4051ADTR2
designator IC?, comment 74HC4051
Analog Multiplexer/Demultiplexer; RefId: 8389071; Value: CD74HC4051PWR; Published: 17-Jul-2002; LatestRevisionDate: 06-Jun-2005; LatestRevisionNote: Stylized 3D Model Added; DatasheetVersion: Mar-2000; PackageVersion: Mar-2000; PackageReference: 948F-01; Publisher: Altium Limited; PackageDescription: Shrink Small Outline; 16 Leads; Body Width 4.4 mm; Pitch 0.65 mm; ComponentLink1Description: Manufacturer Link; ComponentLink1URL: http://www.onsemi.com/site/products/parametrics/0,4446,47,00.html; ComponentLink2Description: Datasheet; ComponentLink2URL: http://www.onsemi.com/pub/Collateral/MC74HC4051A-D.PDF; Supplier: Farnell
footprint 948F-01 (Shrink Small Outline; 16 Leads; Body Width 4.4 mm; Pitch 0.65 mm)
3D model 948F-01 (Shrink Small Outline; 16 Leads; Body Width 4.4 mm; Pitch 0.65 mm)
signal-integrity model MC74HC4051ADTR2
pins: 1 X4 (io), 2 X6 (io), 3 X (io), 4 X7 (io), 5 X5 (io), 6 ~{EN} (in), 7 VEE (power), 8 GND (power), 9 C (in), 10 B (in), 11 A (in), 12 X3 (io), 13 X0 (io), 14 X1 (io), 15 X2 (io), 16 VCC (power)

## MC100EP16
designator IC?  value MC100EP16VADTG  (hidden comment: MC100EP16)
ONSemi differental receiver w/ECL output; RefId: 1607606; Supplier: Farnell
footprint TSOP65P490-8AN (TSOP, 8-Leads, Body 3x3mm, Pitch 0.65mm, IPC Medium Density)
part A pins: 2 D (in), 3 /D (in), 4 VBB, 6 /Q (out), 7 Q (out)
part B pins: 5 VEE, 8 VDD

## MC100EP29
designator IC?, comment MC100EP29DT
Dual ECL flip-flop with set/reset
footprint TSOP65P640-20AN (TSOP, 20-Leads, Body 6.5x4.4mm, Pitch 0.65mm, IPC Medium Density)
part A pins: 1 D (in), 2 ~{D} (in), 4 CLK (in), 5 ~{CLK} (in), 16 ~{Q} (out), 17 Q (out), 18 S (in), 19 R (in)
part B pins: 6 CLK (in), 7 ~{CLK} (in), 8 D (in), 9 ~{D} (in), 12 R (in), 13 S (in), 14 ~{Q} (out), 15 Q (out)
part C pins: 3 VBB (power), 10 VCC (power), 11 VEE (power), 20 VCC (power)

## MC100EPT21
designator IC?
ONSemi LVDS/LVPECL -> LVTTL/LVCMOS buffer; RefId: MC100EPT21DTGOS-ND; Value: MC100EPT21; Supplier: Digikey
footprint TSOP65P490-8AN (TSOP, 8-Leads, Body 3x3mm, Pitch 0.65mm, IPC Medium Density)
part A pins: 2 D (in), 3 /D (in), 4 VBB, 7 Q (out)
part B pins: 5 GND, 8 VDD

## MCP3008
designator IC?
8-channel 10-bit SAR ADC with SPI interface
footprint SOIC127P602-16AM (SOIC, 16-Leads, Body 9.9x3.9mm, Pitch 1.27mm, IPC Low Density)
pins: 1 CH0 (in), 2 CH1 (in), 3 CH2 (in), 4 CH3 (in), 5 CH4 (in), 6 CH5 (in), 7 CH6 (in), 8 CH7 (in), 9 DGND (power), 10 ~{CS}/SHDN (in), 11 DIN (in), 12 DOUT (out), 13 CLK (in), 14 AGND (power), 15 VREF (in), 16 VDD (power)

## MCP23017
designator IC?
16-bit I2C I/O Expander
footprint SOP65P760-28L (SOP, 28-Leads, Body 10.2x5.3mm, Pitch 0.65mm, IPC High Density)
pins: 1 GPB0 (io), 2 GPB1 (io), 3 GPB2 (io), 4 GPB3 (io), 5 GPB4 (io), 6 GPB5 (io), 7 GPB6 (io), 8 GPB7 (io), 9 VDD (power), 10 VSS (power), 12 SCL (io), 13 SDA (io), 15 A0 (in), 16 A1 (in), 17 A2 (in), 18 ~{RESET} (in), 19 INTB (out), 20 INTA (out), 21 GPA0 (io), 22 GPA1 (io), 23 GPA2 (io), 24 GPA3 (io), 25 GPA4 (io), 26 GPA5 (io), 27 GPA6 (io), 28 GPA7 (io)

## MEM_24C16
designator U?, comment 24LC16
Serial 16K EEPROM; RefId: 1296575; Value: 24LC16B-I/SN; Supplier: Farnell
footprint SOIC127P600-8AL (SOIC, 8-Leads, Body 4.9x3.9mm, Pitch 1.27mm, IPC High Density)
pins: 1 A0 (in), 2 A1 (in), 3 A2 (in), 4 GND (power), 5 SDA (io), 6 SCL (in), 7 ~{WP}, 8 VCC (power)
2 alternate drawings of the same symbol

## MEM_AT45DB642
designator IC?  value AT45DB642D-TU  (hidden comment: MEM_AT45DB642)
serial data FLASH; RefId: 1095799; Supplier: Farnell
footprint TSOP28-1
footprint SOIC28
pins: 1 RDY/~{BUSY} (out), 2 ~{RESET} (in), 3 ~{WP} (in), 6 VCC (power), 7 GND (power), 11 ~{CS} (in), 12 SCK (in), 13 SI (in), 14 SO (out), 16 SER/~{PAR} (in), 17 IO0 (io), 18 IO1 (io), 19 IO2 (io), 20 IO3 (io), 21 GNDP (power), 22 VCCP (power), 23 IO4 (io), 24 IO5 (io), 25 IO6 (io), 26 IO7 (io)
2 alternate drawings of the same symbol

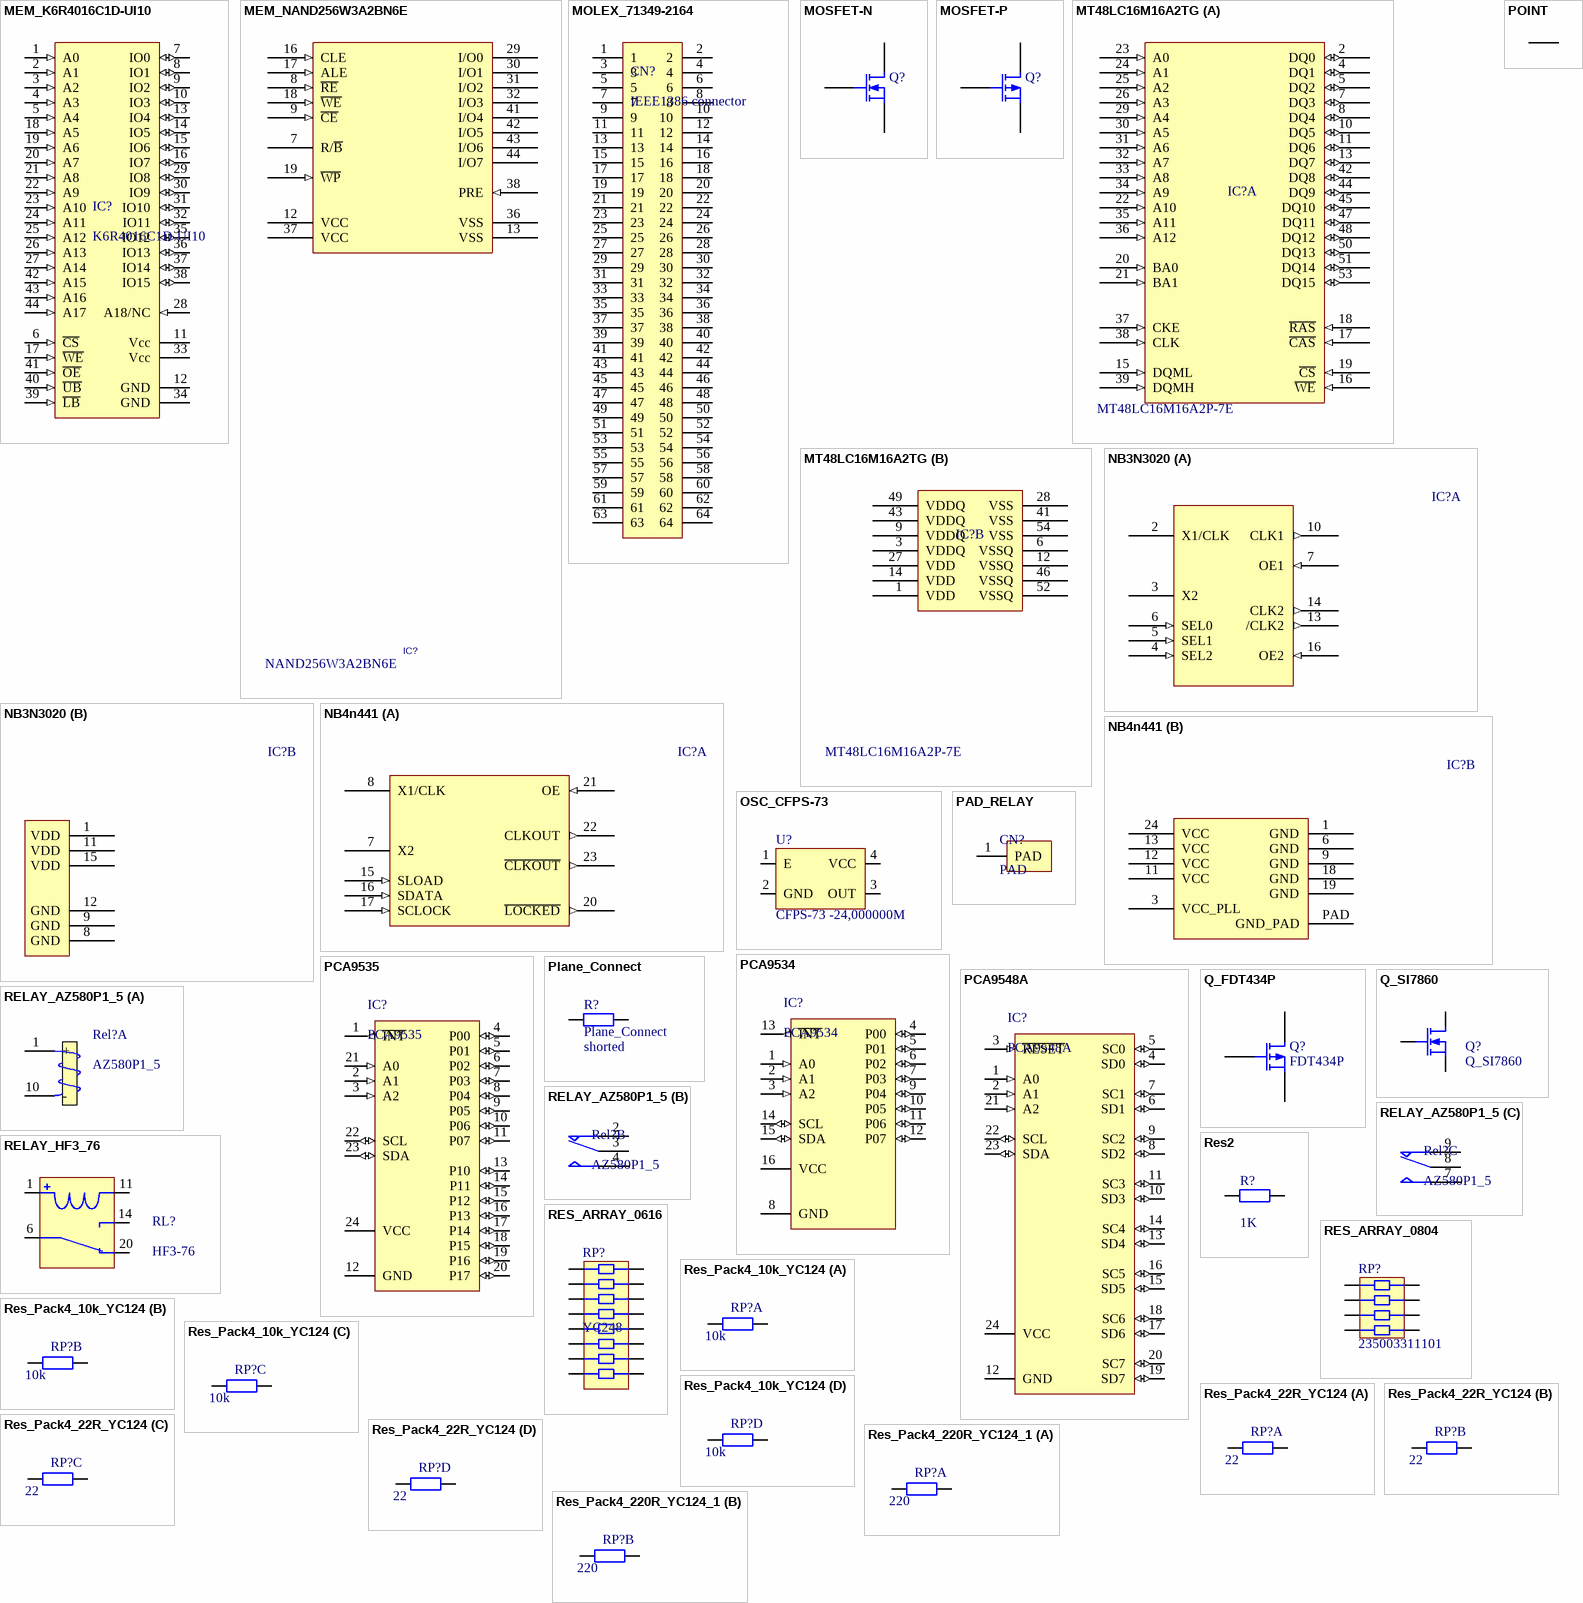
[diagram p16: symbols MEM_K6R4016C1D-UI10 to Res_Pack4_220R_YC124_1]

## MEM_K6R4016C1D-UI10
designator IC?, comment K6R4016C1D-UI10
Samsung 256k x 16 SRAM 10ns; Supplier: TME; Value: K6R4016C1D-UI10; RefId: K6R4016C1D-UI10
footprint TSOP44
pins: 1 A0 (in), 2 A1 (in), 3 A2 (in), 4 A3 (in), 5 A4 (in), 6 ~{CS} (in), 7 IO0 (io), 8 IO1 (io), 9 IO2 (io), 10 IO3 (io), 11 Vcc (power), 12 GND (power), 13 IO4 (io), 14 IO5 (io), 15 IO6 (io), 16 IO7 (io), 17 ~{WE} (in), 18 A5 (in), 19 A6 (in), 20 A7 (in), 21 A8 (in), 22 A9 (in), 23 A10 (in), 24 A11 (in), 25 A12 (in), 26 A13 (in), 27 A14 (in), 28 A18/NC (in), 29 IO8 (io), 30 IO9 (io), 31 IO10 (io), 32 IO11 (io), 33 Vcc (power), 34 GND (power), 35 IO12 (io), 36 IO13 (io), 37 IO14 (io), 38 IO15 (io), 39 ~{LB} (in), 40 ~{UB} (in), 41 ~{OE} (in), 42 A15 (in), 43 A16 (in), 44 A17 (in)

## MEM_NAND256W3A2BN6E
designator IC?  value NAND256W3A2BN6E  (hidden comment: MEM_NAND256W3A2BN6E)
256 MByte 8-bit NAND flash; Ref. num.: 1224400; Supplier: Farnell
footprint TSOP48_12x20 (Footprint not found)
pins: 7 R/~{B} (oc), 8 ~{RE} (in), 9 ~{CE} (in), 12 VCC (power), 13 VSS (power), 16 CLE (in), 17 ALE (in), 18 ~{WE} (in), 19 ~{WP} (in), 29 I/O0 (hiz), 30 I/O1 (hiz), 31 I/O2 (hiz), 32 I/O3 (hiz), 36 VSS (power), 37 VCC (power), 38 PRE (in), 41 I/O4 (hiz), 42 I/O5 (hiz), 43 I/O6 (hiz), 44 I/O7 (hiz)

## MOLEX_71349-2164
designator CN?, comment IEEE1386 connector
Molex IEEE1386 64-pin 1mm pitch SMD connector
pins: 1, 2, 3, 4, 5, 6, 7, 8, 9, 10, 11, 12, 13, 14, 15, 16, 17, 18, 19, 20, 21, 22, 23, 24, 25, 26, 27, 28, 29, 30, 31, 32, 33, 34, 35, 36, 37, 38, 39, 40, 41, 42, 43, 44, 45, 46, 47, 48, 49, 50, 51, 52, 53, 54, 55, 56, 57, 58, 59, 60, 61, 62, 63, 64

## MOSFET-N
designator Q?
N-Channel MOSFET; PackageDocument: 1995/1996; Published: 8-Jun-2000; LatestRevisionDate: 17-Jul-2002; LatestRevisionNote: Re-released for DXP Platform.; PackageReference: E3; Publisher: Altium Limited
footprint E3 (TO, Flat Index; 3 In-Line, Axial Leads; Body Dia. 4.6mm; Lead Dia. 0.5 mm (max))
simulation model NMOS (MOSFET-N)
pins: 1 D, 2 G, 3 S

## MOSFET-P
designator Q?
P-Channel MOSFET; PackageDocument: 1995/1996; Published: 8-Jun-2000; LatestRevisionDate: 17-Jul-2002; LatestRevisionNote: Re-released for DXP Platform.; PackageReference: E3; Publisher: Altium Limited
footprint E3 (TO, Flat Index; 3 In-Line, Axial Leads; Body Dia. 4.6mm; Lead Dia. 0.5 mm (max))
simulation model PMOS (MOSFET-P)
pins: 1 D, 2 G, 3 S

## MT48LC16M16A2TG
designator IC?  value MT48LC16M16A2P-7E  (hidden comment: MT48LC16M16A2TG)
Micron 256Mbit PC133 SDRAM w/16-bit data bus; RefId: 1216281; Supplier: Farnell
footprint TSOP54
part A pins: 2 DQ0 (io), 4 DQ1 (io), 5 DQ2 (io), 7 DQ3 (io), 8 DQ4 (io), 10 DQ5 (io), 11 DQ6 (io), 13 DQ7 (io), 15 DQML (in), 16 ~{WE} (in), 17 ~{CAS} (in), 18 ~{RAS} (in), 19 ~{CS} (in), 20 BA0 (in), 21 BA1 (in), 22 A10 (in), 23 A0 (in), 24 A1 (in), 25 A2 (in), 26 A3 (in), 29 A4 (in), 30 A5 (in), 31 A6 (in), 32 A7 (in), 33 A8 (in), 34 A9 (in), 35 A11 (in), 36 A12 (in), 37 CKE (in), 38 CLK (in), 39 DQMH (in), 42 DQ8 (io), 44 DQ9 (io), 45 DQ10 (io), 47 DQ11 (io), 48 DQ12 (io), 50 DQ13 (io), 51 DQ14 (io), 53 DQ15 (io)
part B pins: 1 VDD (power), 3 VDDQ (power), 6 VSSQ (power), 9 VDDQ (power), 12 VSSQ (power), 14 VDD (power), 27 VDD (power), 28 VSS (power), 41 VSS (power), 43 VDDQ (power), 46 VSSQ (power), 49 VDDQ (power), 52 VSSQ (power), 54 VSS (power)

## NB3N3020
designator IC?  (value not drawn)
OnSemi single-chip clock mutliplier; Value: NB3N3020DTR2G; RefId: NB3N3020DTR2G-ND; Supplier: Digikey
footprint SOP65P640-16L (SOP, 16-Leads, Body 5x4.4mm, Pitch 0.65mm, IPC High Density)
part A pins: 2 X1/CLK, 3 X2, 4 SEL2 (in), 5 SEL1 (in), 6 SEL0 (in), 7 OE1 (in), 10 CLK1 (out), 13 /CLK2 (out), 14 CLK2 (out), 16 OE2 (in)
part B pins: 1 VDD (power), 8 GND (power), 9 GND (power), 11 VDD (power), 12 GND (power), 15 VDD (power)

## NB4n441
designator IC?  (value not drawn)
OnSemi single-chip clock synthesizer; Value: NB3N441MNG; Supplier: Avnet; RefId: NB3N441MNG
footprint QFN24 (Footprint not found)
part A pins: 7 X2, 8 X1/CLK, 15 SLOAD (in), 16 SDATA (in), 17 SCLOCK (in), 20 ~{LOCKED} (out), 21 OE (in), 22 CLKOUT (out), 23 ~{CLKOUT} (out)
part B pins: 1 GND (power), 3 VCC_PLL (power), 6 GND (power), 9 GND (power), 11 VCC (power), 12 VCC (power), 13 VCC (power), 18 GND (power), 19 GND (power), 24 VCC (power), PAD GND_PAD (power)

## OSC_CFPS-73
designator U?, comment CFPS-73 -24,000000M
SMD oscillator 3.3V (Elfa)
footprint SPXO
pins: 1 E, 2 GND, 3 OUT, 4 VCC
2 alternate drawings of the same symbol

## PAD_RELAY
designator CN?, comment PAD
footprint PAD_RELAY
pins: 1 PAD

## PCA9534
designator IC?
8-bit I2C I/O expander; Value: PCA9534PW; Supplier: Farnell
footprint TSOP65P640-16AM (TSOP, 16-Leads, Body 5x4.4mm, Pitch 0.65mm, IPC Low Density)
pins: 1 A0 (in), 2 A1 (in), 3 A2 (in), 4 P00 (io), 5 P01 (io), 6 P02 (io), 7 P03 (io), 8 GND (power), 9 P04 (io), 10 P05 (io), 11 P06 (io), 12 P07 (io), 13 ~{INT} (out), 14 SCL (io), 15 SDA (io), 16 VCC (power)

## PCA9535
designator IC?
16-bit I2C I/O expander; RefId: 1627049; Value: PCA9535PW; Supplier: Farnell
footprint TSOP65P640-24AL (TSOP, 24-Leads, Body 7.8x4.4mm, Pitch 0.65mm, IPC High Density)
pins: 1 ~{INT} (out), 2 A1 (in), 3 A2 (in), 4 P00 (io), 5 P01 (io), 6 P02 (io), 7 P03 (io), 8 P04 (io), 9 P05 (io), 10 P06 (io), 11 P07 (io), 12 GND (power), 13 P10 (io), 14 P11 (io), 15 P12 (io), 16 P13 (io), 17 P14 (io), 18 P15 (io), 19 P16 (io), 20 P17 (io), 21 A0 (in), 22 SCL (io), 23 SDA (io), 24 VCC (power)

## PCA9548A
designator IC?
1-to-8 I2C bus mux; RefId: 1607855; Value: PCA9548APWR; Supplier: Farnell
footprint TSOP65P640-24AL (TSOP, 24-Leads, Body 7.8x4.4mm, Pitch 0.65mm, IPC High Density)
pins: 1 A0 (in), 2 A1 (in), 3 ~{RESET} (in), 4 SD0 (io), 5 SC0 (io), 6 SD1 (io), 7 SC1 (io), 8 SD2 (io), 9 SC2 (io), 10 SD3 (io), 11 SC3 (io), 12 GND (power), 13 SD4 (io), 14 SC4 (io), 15 SD5 (io), 16 SC5 (io), 17 SD6 (io), 18 SC6 (io), 19 SD7 (io), 20 SC7 (io), 21 A2 (in), 22 SCL (io), 23 SDA (io), 24 VCC (power)

## Plane_Connect
designator R?  value shorted
Resistor; Published: 8-Jun-2000; LatestRevisionDate: 17-Jul-2002; LatestRevisionNote: Re-released for DXP Platform.; PackageReference: AXIAL-0.4; Publisher: Altium Limited
footprint PLANE_CONNECT_POINT
simulation model RESISTOR (Resistor)
signal-integrity model Res
pins: 1, 2

## POINT
designator TP?
footprint POINT
pins: 1

## Q_FDT434P
designator Q?, comment FDT434P
P-Channel MOSFET; PackageDocument: 1995/1996; Published: 8-Jun-2000; LatestRevisionDate: 17-Jul-2002; LatestRevisionNote: Re-released for DXP Platform.; PackageReference: E3; Publisher: Altium Limited
footprint SOT223-4L (SOT223, 4-Leads, Body 6.5x3.5mm, Pitch 2.3mm, Lead Span 7mm, IPC High Density)
simulation model PMOS (MOSFET-P)
pins: 1 G, 2 D, 3 S, 4 D

## Q_SI7860
designator Q?
18A 8mOhm N-Channel MOSFET; PackageDocument: 1995/1996; RefId: 1653688; Value: SI7860DP; Published: 8-Jun-2000; LatestRevisionDate: 17-Jul-2002; LatestRevisionNote: Re-released for DXP Platform.; PackageReference: E3; Publisher: Altium Limited; Supplier: Farnell
footprint SOIC127P600-8AL (SOIC, 8-Leads, Body 4.9x3.9mm, Pitch 1.27mm, IPC High Density)
pins: 1 S, 2 S, 3 S, 4 G, 5 D, 6 D, 7 D, 8 D

## RELAY_AZ580P1_5
designator Rel?, comment AZ580P1_5
Single-Coil DPTD bistable relay
footprint RELAY_AZ850
part A pins: 1 +, 10 -
part B pins: 2 NC1, 3 COM1, 4 NO1
part C pins: 7 NO2, 8 COM2, 9 NC2

## RELAY_HF3_76
designator RL?, comment HF3-76
High Frequency relay
footprint RELAY_HF3_SERIES (Footprint not found)
pins: 1 +, 2 GND hidden to GND, 5 GND hidden to GND, 6 C, 7 GND hidden to GND, 10 GND hidden to GND, 11 -, 12 GND hidden to GND, 13 GND hidden to GND, 14 NO, 15 GND hidden to GND, 17 GND hidden to GND, 19 GND hidden to GND, 20 NC, 21 GND hidden to GND, 22 GND hidden to GND

## Res2
designator R?  value 1K
Resistor; Published: 8-Jun-2000; LatestRevisionDate: 17-Jul-2002; LatestRevisionNote: Re-released for DXP Platform.; PackageReference: AXIAL-0.4; Publisher: Altium Limited
footprint AXIAL-0.4 (Resistor; 2 Leads)
simulation model RESISTOR (Resistor)
signal-integrity model Res
pins: 1, 2

## RES_ARRAY_0616
designator RP?, comment YC248
Resistor network 0616 PHYCOMP (Farnell)
footprint YC248
pins: 1, 2, 3, 4, 5, 6, 7, 8, 9, 10, 11, 12, 13, 14, 15, 16
2 alternate drawings of the same symbol

## RES_ARRAY_0804
designator RP?, comment 235003311101
Resistor network 0804 PHYCOMP (Farnell)
footprint YC124
pins: 1, 2, 3, 4, 5, 6, 7, 8
2 alternate drawings of the same symbol

## Res_Pack4_10k_YC124
designator RP?, comment value 10k  (hidden comment: RES_PACK)
4-resistor pack; RefId: AVX  CRB2A4 series; Supplier: Farnell
footprint YC124
part A pins: 1 A, 8 B
part B pins: 2 A, 7 B
part C pins: 3 A, 6 B
part D pins: 4 A, 5 B

## Res_Pack4_22R_YC124
designator RP?, comment value 22  (hidden comment: RES_PACK)
4-resistor pack; RefId: AVX  CRB2A4 series; Supplier: Farnell
footprint YC124
part A pins: 1 A, 8 B
part B pins: 2 A, 7 B
part C pins: 3 A, 6 B
part D pins: 4 A, 5 B

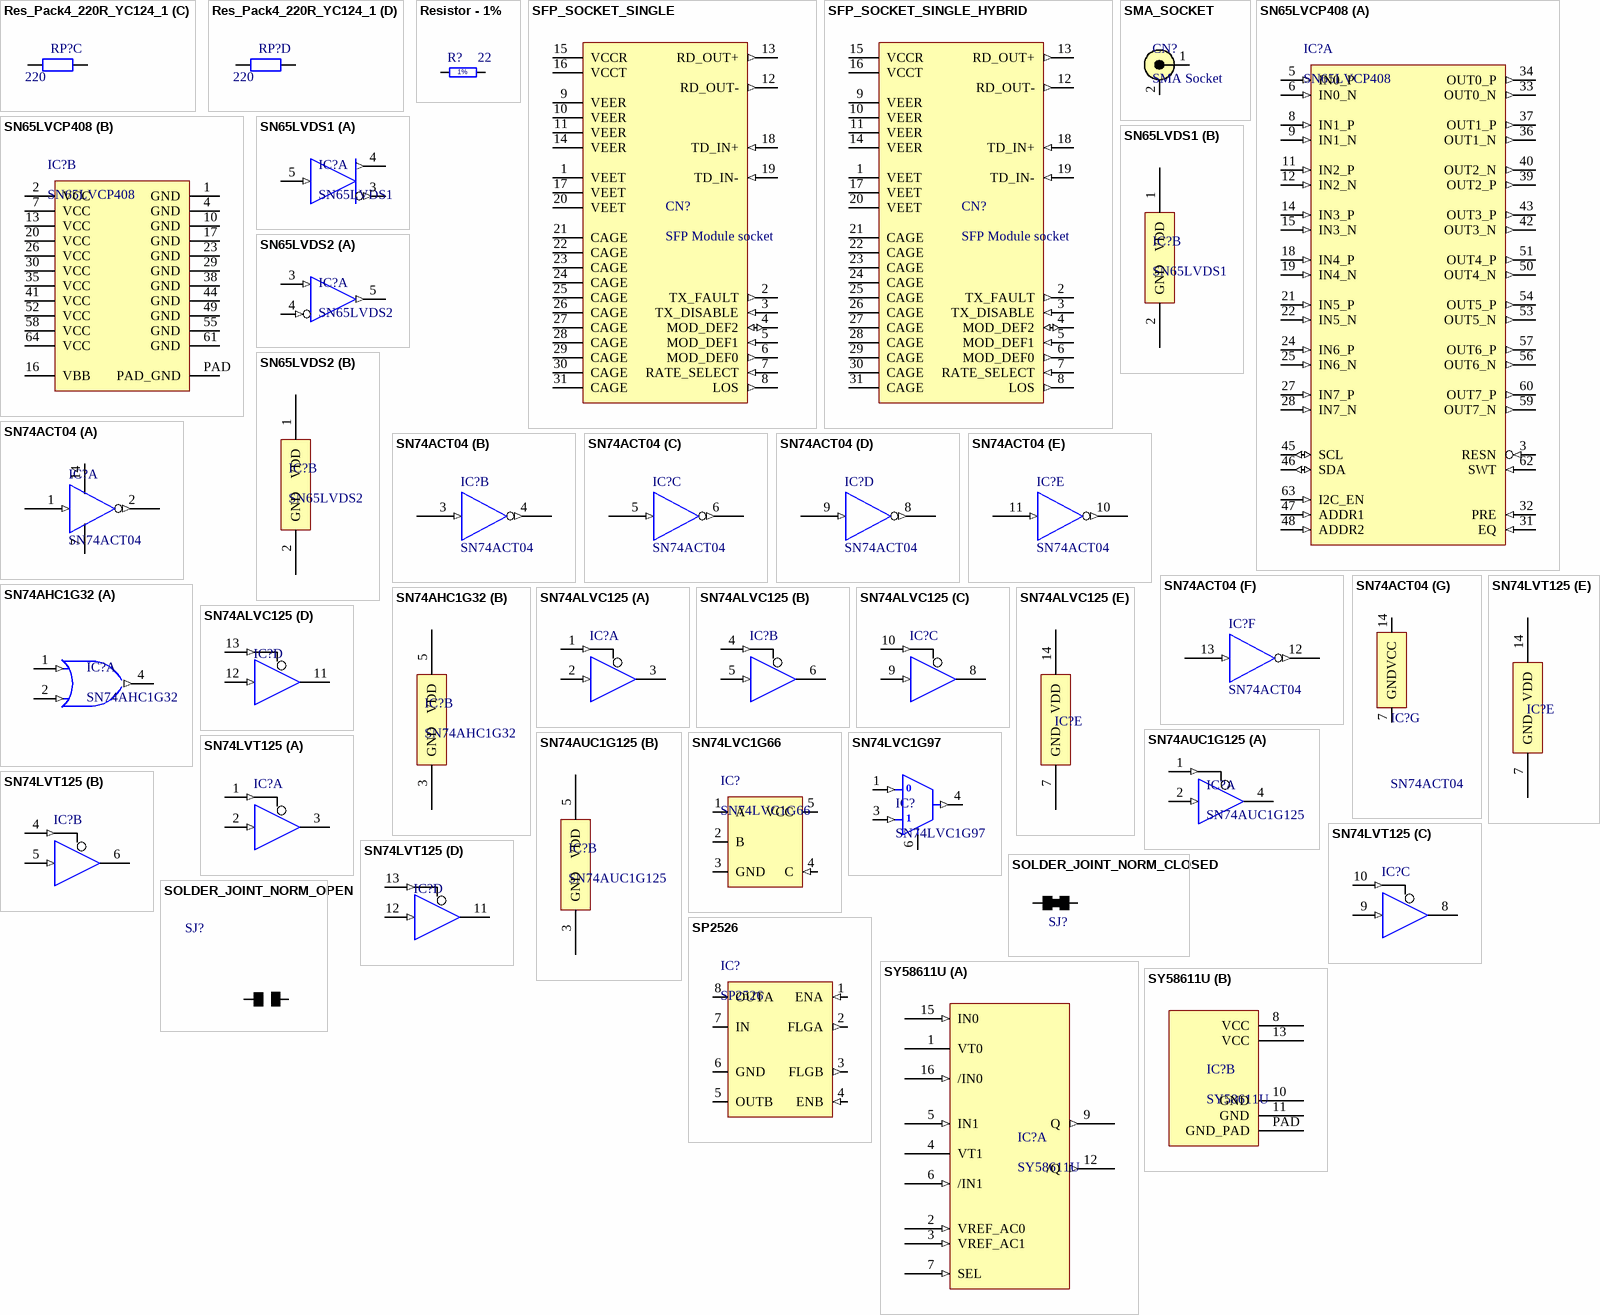
[diagram p17: symbols Res_Pack4_220R_YC124_1 to SY58611U]

## Res_Pack4_220R_YC124_1
designator RP?, comment value 220  (hidden comment: RES_PACK)
4-resistor pack; RefId: AVX  CRB2A4 series; Supplier: Farnell
footprint YC124
part A pins: 1 A, 8 B
part B pins: 2 A, 7 B
part C pins: 3 A, 6 B
part D pins: 4 A, 5 B

## Resistor - 1%
designator R?, comment 22
Resistor - 1%; Part Number: R0603_22R_1%_0.1W_100PPM; Part Description: General Purpose Thick Film Chip Resistor; Manufacturer: GENERIC; Manufacturer1 Part Number: NRC06F22R0TRF; Manufacturer1 Datasheet: \\cern.ch\dfs\Applications\Altium\Datasheets\R0603_NIC_NRC.pdf; Power: 0.1W; TC: ±100ppm/°C; Table: Resistors SMD; Component Kind: Standard; Component Type: Standard; Designator: Resistor - 1%; Footprint: RESC1608X55N; Library Reference: Resistor - 1%; Pin Count: 2; Value: 22; Status: Preferred; Tolerance: ±1%; Manufacturer Part Number: R0603_22R_1%_0.1W_100PPM; Case: 0603; Mounted: Yes; Socket: No; SMD: Yes; Manufacturer1 Example: NIC COMPONENT; Manufacturer1 ComponentHeight: 0.55mm; HelpURL: \\cern.ch\dfs\Applications\Altium\Datasheets\R0603_NIC_NRC.pdf; Author: CERN DEM JLC; CreateDate: 2007-12-03; LatestRevisionDate: 2008-03-13
footprint RESC1608X55N
pins: 1, 2
text: 1%